# Altium schematic symbol library MCU_ST_STM32WB.SchLib: 40 symbols
Pins are listed as number, name and electrical type; pins without a type are passive.

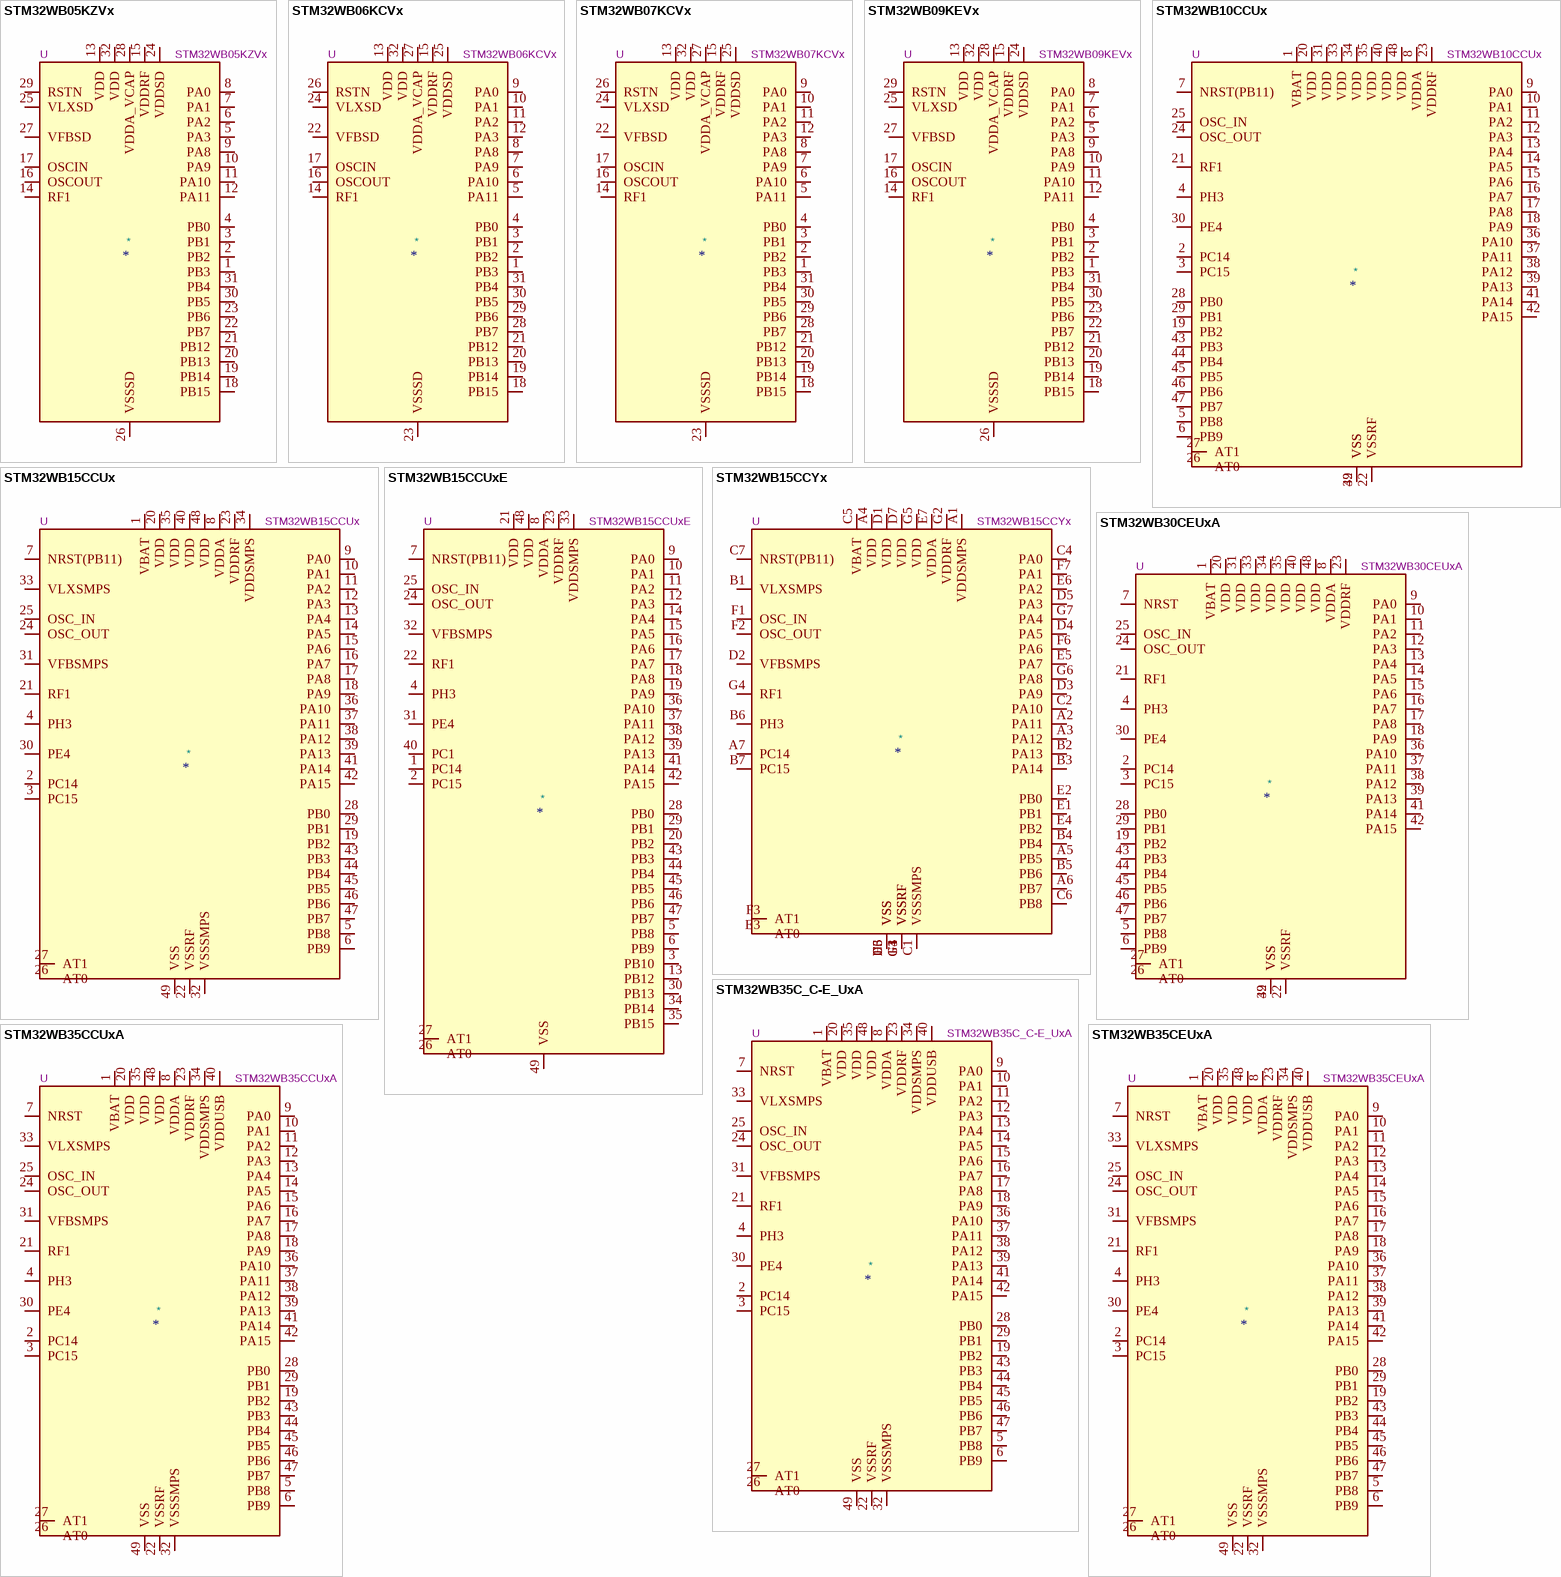
[diagram p0: symbols STM32WB05KZVx to STM32WB35CEUxA]

## STM32WB05KZVx
designator *  value STM32WB05KZVx  Reference: U
STMicroelectronics Arm Cortex-M0+ MCU, 192KB flash, 24KB RAM, 20 GPIO, VFQFPN32; ki_keywords: Arm Cortex-M0+ STM32WB0 STM32WBx5; ki_fp_filters: QFN*1EP*5x5mm*P0.5mm*; Footprint: Package_DFN_QFN:QFN-32-1EP_5x5mm_P0.5mm_EP3.7x3.7mm; Datasheet: https://www.st.com/resource/en/datasheet/stm32wb05kz.pdf; Description_: STMicroelectronics Arm Cortex-M0+ MCU, 192KB flash, 24KB RAM, 20 GPIO, VFQFPN32
pins: 1 PB3, 2 PB2, 3 PB1, 4 PB0, 5 PA3, 6 PA2, 7 PA1, 8 PA0, 9 PA8, 10 PA9, 11 PA10, 12 PA11, 13 VDD, 14 RF1, 15 VDDRF, 16 OSCOUT, 17 OSCIN, 18 PB15, 19 PB14, 20 PB13, 21 PB12, 22 PB7, 23 PB6, 24 VDDSD, 25 VLXSD, 26 VSSSD, 27 VFBSD, 28 VDDA_VCAP, 29 RSTN, 30 PB5, 31 PB4, 32 VDD

## STM32WB06KCVx
designator *  value STM32WB06KCVx  Reference: U
STMicroelectronics Arm Cortex-M0+ MCU, 256KB flash, 32KB RAM, 20 GPIO, VFQFPN32; ki_keywords: Arm Cortex-M0+ STM32WB0 STM32WBx6; ki_fp_filters: QFN*1EP*5x5mm*P0.5mm*; Footprint: Package_DFN_QFN:QFN-32-1EP_5x5mm_P0.5mm_EP3.7x3.7mm; Datasheet: https://www.st.com/resource/en/datasheet/stm32wb06kc.pdf; Description_: STMicroelectronics Arm Cortex-M0+ MCU, 256KB flash, 32KB RAM, 20 GPIO, VFQFPN32
pins: 1 PB3, 2 PB2, 3 PB1, 4 PB0, 5 PA11, 6 PA10, 7 PA9, 8 PA8, 9 PA0, 10 PA1, 11 PA2, 12 PA3, 13 VDD, 14 RF1, 15 VDDRF, 16 OSCOUT, 17 OSCIN, 18 PB15, 19 PB14, 20 PB13, 21 PB12, 22 VFBSD, 23 VSSSD, 24 VLXSD, 25 VDDSD, 26 RSTN, 27 VDDA_VCAP, 28 PB7, 29 PB6, 30 PB5, 31 PB4, 32 VDD

## STM32WB07KCVx
designator *  value STM32WB07KCVx  Reference: U
STMicroelectronics Arm Cortex-M0+ MCU, 256KB flash, 64KB RAM, 20 GPIO, VFQFPN32; ki_keywords: Arm Cortex-M0+ STM32WB0 STM32WBx7; ki_fp_filters: QFN*1EP*5x5mm*P0.5mm*; Footprint: Package_DFN_QFN:QFN-32-1EP_5x5mm_P0.5mm_EP3.7x3.7mm; Datasheet: https://www.st.com/resource/en/datasheet/stm32wb07kc.pdf; Description_: STMicroelectronics Arm Cortex-M0+ MCU, 256KB flash, 64KB RAM, 20 GPIO, VFQFPN32
pins: 1 PB3, 2 PB2, 3 PB1, 4 PB0, 5 PA11, 6 PA10, 7 PA9, 8 PA8, 9 PA0, 10 PA1, 11 PA2, 12 PA3, 13 VDD, 14 RF1, 15 VDDRF, 16 OSCOUT, 17 OSCIN, 18 PB15, 19 PB14, 20 PB13, 21 PB12, 22 VFBSD, 23 VSSSD, 24 VLXSD, 25 VDDSD, 26 RSTN, 27 VDDA_VCAP, 28 PB7, 29 PB6, 30 PB5, 31 PB4, 32 VDD

## STM32WB09KEVx
designator *  value STM32WB09KEVx  Reference: U
STMicroelectronics Arm Cortex-M0+ MCU, 512KB flash, 64KB RAM, 20 GPIO, VFQFPN32; ki_keywords: Arm Cortex-M0+ STM32WB0 STM32WBx9; ki_fp_filters: QFN*1EP*5x5mm*P0.5mm*; Footprint: Package_DFN_QFN:QFN-32-1EP_5x5mm_P0.5mm_EP3.7x3.7mm; Datasheet: https://www.st.com/resource/en/datasheet/stm32wb09ke.pdf; Description_: STMicroelectronics Arm Cortex-M0+ MCU, 512KB flash, 64KB RAM, 20 GPIO, VFQFPN32
pins: 1 PB3, 2 PB2, 3 PB1, 4 PB0, 5 PA3, 6 PA2, 7 PA1, 8 PA0, 9 PA8, 10 PA9, 11 PA10, 12 PA11, 13 VDD, 14 RF1, 15 VDDRF, 16 OSCOUT, 17 OSCIN, 18 PB15, 19 PB14, 20 PB13, 21 PB12, 22 PB7, 23 PB6, 24 VDDSD, 25 VLXSD, 26 VSSSD, 27 VFBSD, 28 VDDA_VCAP, 29 RSTN, 30 PB5, 31 PB4, 32 VDD

## STM32WB10CCUx
designator *  value STM32WB10CCUx  Reference: U
STMicroelectronics Arm Cortex-M4 MCU, 320KB flash, 48KB RAM, 64 MHz, 2.0-3.6V, 30 GPIO, UFQFPN48; ki_keywords: Arm Cortex-M4 STM32WB STM32WBx0 Value Line; ki_fp_filters: QFN*1EP*7x7mm*P0.5mm*; Footprint: Package_DFN_QFN:QFN-48-1EP_7x7mm_P0.5mm_EP5.6x5.6mm; Datasheet: https://www.st.com/resource/en/datasheet/stm32wb10cc.pdf; Description_: STMicroelectronics Arm Cortex-M4 MCU, 320KB flash, 48KB RAM, 64 MHz, 2.0-3.6V, 30 GPIO, UFQFPN48
pins: 1 VBAT, 2 PC14, 3 PC15, 4 PH3, 5 PB8, 6 PB9, 7 NRST(PB11), 8 VDDA, 9 PA0, 10 PA1, 11 PA2, 12 PA3, 13 PA4, 14 PA5, 15 PA6, 16 PA7, 17 PA8, 18 PA9, 19 PB2, 20 VDD, 21 RF1, 22 VSSRF, 23 VDDRF, 24 OSC_OUT, 25 OSC_IN, 26 AT0, 27 AT1, 28 PB0, 29 PB1, 30 PE4, 31 VDD, 32 VSS, 33 VDD, 34 VDD, 35 VDD, 36 PA10, 37 PA11, 38 PA12, 39 PA13, 40 VDD, 41 PA14, 42 PA15, 43 PB3, 44 PB4, 45 PB5, 46 PB6, 47 PB7, 48 VDD, 49 VSS

## STM32WB15CCUx
designator *  value STM32WB15CCUx  Reference: U
STMicroelectronics Arm Cortex-M4 MCU, 320KB flash, 48KB RAM, 64 MHz, 1.71-3.6V, 30 GPIO, UFQFPN48; ki_keywords: Arm Cortex-M4 STM32WB STM32WBx5; ki_fp_filters: QFN*1EP*7x7mm*P0.5mm*; Footprint: Package_DFN_QFN:QFN-48-1EP_7x7mm_P0.5mm_EP5.6x5.6mm; Datasheet: https://www.st.com/resource/en/datasheet/stm32wb15cc.pdf; Description_: STMicroelectronics Arm Cortex-M4 MCU, 320KB flash, 48KB RAM, 64 MHz, 1.71-3.6V, 30 GPIO, UFQFPN48
pins: 1 VBAT, 2 PC14, 3 PC15, 4 PH3, 5 PB8, 6 PB9, 7 NRST(PB11), 8 VDDA, 9 PA0, 10 PA1, 11 PA2, 12 PA3, 13 PA4, 14 PA5, 15 PA6, 16 PA7, 17 PA8, 18 PA9, 19 PB2, 20 VDD, 21 RF1, 22 VSSRF, 23 VDDRF, 24 OSC_OUT, 25 OSC_IN, 26 AT0, 27 AT1, 28 PB0, 29 PB1, 30 PE4, 31 VFBSMPS, 32 VSSSMPS, 33 VLXSMPS, 34 VDDSMPS, 35 VDD, 36 PA10, 37 PA11, 38 PA12, 39 PA13, 40 VDD, 41 PA14, 42 PA15, 43 PB3, 44 PB4, 45 PB5, 46 PB6, 47 PB7, 48 VDD, 49 VSS

## STM32WB15CCUxE
designator *  value STM32WB15CCUxE  Reference: U
STMicroelectronics Arm Cortex-M4 MCU, 320KB flash, 48KB RAM, 64 MHz, 1.71-3.6V, 36 GPIO, UFQFPN48; ki_keywords: Arm Cortex-M4 STM32WB STM32WBx5; ki_fp_filters: QFN*1EP*7x7mm*P0.5mm*; Footprint: Package_DFN_QFN:QFN-48-1EP_7x7mm_P0.5mm_EP5.6x5.6mm; Datasheet: https://www.st.com/resource/en/datasheet/stm32wb15cc.pdf; Description_: STMicroelectronics Arm Cortex-M4 MCU, 320KB flash, 48KB RAM, 64 MHz, 1.71-3.6V, 36 GPIO, UFQFPN48
pins: 1 PC14, 2 PC15, 3 PB10, 4 PH3, 5 PB8, 6 PB9, 7 NRST(PB11), 8 VDDA, 9 PA0, 10 PA1, 11 PA2, 12 PA3, 13 PB12, 14 PA4, 15 PA5, 16 PA6, 17 PA7, 18 PA8, 19 PA9, 20 PB2, 21 VDD, 22 RF1, 23 VDDRF, 24 OSC_OUT, 25 OSC_IN, 26 AT0, 27 AT1, 28 PB0, 29 PB1, 30 PB13, 31 PE4, 32 VFBSMPS, 33 VDDSMPS, 34 PB14, 35 PB15, 36 PA10, 37 PA11, 38 PA12, 39 PA13, 40 PC1, 41 PA14, 42 PA15, 43 PB3, 44 PB4, 45 PB5, 46 PB6, 47 PB7, 48 VDD, 49 VSS

## STM32WB15CCYx
designator *  value STM32WB15CCYx  Reference: U
STMicroelectronics Arm Cortex-M4 MCU, 320KB flash, 48KB RAM, 64 MHz, 1.71-3.6V, 26 GPIO, WLCSP49; ki_keywords: Arm Cortex-M4 STM32WB STM32WBx5; ki_fp_filters: ST*WLCSP*3.3x3.38mm*Layout7x7*P0.4mm*Offcenter*; Footprint: Package_CSP:ST_WLCSP-49_3.3x3.38mm_Layout7x7_P0.4mm_Offcenter; Datasheet: https://www.st.com/resource/en/datasheet/stm32wb15cc.pdf; Description_: STMicroelectronics Arm Cortex-M4 MCU, 320KB flash, 48KB RAM, 64 MHz, 1.71-3.6V, 26 GPIO, WLCSP49
pins: A1 VDDSMPS, A2 PA11, A3 PA12, A4 VDD, A5 PB5, A6 PB7, A7 PC14, B1 VLXSMPS, B2 PA13, B3 PA14, B4 PB4, B5 PB6, B6 PH3, B7 PC15, C1 VSSSMPS, C2 PA10, C3 VSS, C4 PA0, C5 VBAT, C6 PB8, C7 NRST(PB11), D1 VDD, D2 VFBSMPS, D3 PA9, D4 PA5, D5 PA3, D6 VSS, D7 VDD, E1 PB1, E2 PB0, E3 AT0, E4 PB2, E5 PA7, E6 PA2, E7 VDDA, F1 OSC_IN, F2 OSC_OUT, F3 AT1, F4 VSSRF, F5 VSS, F6 PA6, F7 PA1, G1 VSSRF, G2 VDDRF, G3 VSSRF, G4 RF1, G5 VDD, G6 PA8, G7 PA4

## STM32WB30CEUxA
designator *  value STM32WB30CEUxA  Reference: U
STMicroelectronics Arm Cortex-M4 MCU, 512KB flash, 96KB RAM, 30 GPIO, UFQFPN48; ki_keywords: Arm Cortex-M4 STM32WB STM32WBx0 Value Line; ki_fp_filters: QFN*1EP*7x7mm*P0.5mm*; Footprint: Package_DFN_QFN:QFN-48-1EP_7x7mm_P0.5mm_EP5.6x5.6mm; Datasheet: https://www.st.com/resource/en/datasheet/stm32wb30ce.pdf; Description_: STMicroelectronics Arm Cortex-M4 MCU, 512KB flash, 96KB RAM, 30 GPIO, UFQFPN48
pins: 1 VBAT, 2 PC14, 3 PC15, 4 PH3, 5 PB8, 6 PB9, 7 NRST, 8 VDDA, 9 PA0, 10 PA1, 11 PA2, 12 PA3, 13 PA4, 14 PA5, 15 PA6, 16 PA7, 17 PA8, 18 PA9, 19 PB2, 20 VDD, 21 RF1, 22 VSSRF, 23 VDDRF, 24 OSC_OUT, 25 OSC_IN, 26 AT0, 27 AT1, 28 PB0, 29 PB1, 30 PE4, 31 VDD, 32 VSS, 33 VDD, 34 VDD, 35 VDD, 36 PA10, 37 PA11, 38 PA12, 39 PA13, 40 VDD, 41 PA14, 42 PA15, 43 PB3, 44 PB4, 45 PB5, 46 PB6, 47 PB7, 48 VDD, 49 VSS

## STM32WB35C_C-E_UxA
designator *  value STM32WB35C_C-E_UxA  Reference: U
STMicroelectronics Arm Cortex-M4 MCU, 256-512KB flash, 96KB RAM, 30 GPIO, UFQFPN48; ki_keywords: Arm Cortex-M4 STM32WB STM32WBx5; ki_fp_filters: QFN*1EP*7x7mm*P0.5mm*; Footprint: Package_DFN_QFN:QFN-48-1EP_7x7mm_P0.5mm_EP5.6x5.6mm; Datasheet: https://www.st.com/resource/en/datasheet/stm32wb35cc.pdf; Description_: STMicroelectronics Arm Cortex-M4 MCU, 256-512KB flash, 96KB RAM, 30 GPIO, UFQFPN48
pins: 1 VBAT, 2 PC14, 3 PC15, 4 PH3, 5 PB8, 6 PB9, 7 NRST, 8 VDDA, 9 PA0, 10 PA1, 11 PA2, 12 PA3, 13 PA4, 14 PA5, 15 PA6, 16 PA7, 17 PA8, 18 PA9, 19 PB2, 20 VDD, 21 RF1, 22 VSSRF, 23 VDDRF, 24 OSC_OUT, 25 OSC_IN, 26 AT0, 27 AT1, 28 PB0, 29 PB1, 30 PE4, 31 VFBSMPS, 32 VSSSMPS, 33 VLXSMPS, 34 VDDSMPS, 35 VDD, 36 PA10, 37 PA11, 38 PA12, 39 PA13, 40 VDDUSB, 41 PA14, 42 PA15, 43 PB3, 44 PB4, 45 PB5, 46 PB6, 47 PB7, 48 VDD, 49 VSS

## STM32WB35CCUxA
designator *  value STM32WB35CCUxA  Reference: U
STMicroelectronics Arm Cortex-M4 MCU, 256KB flash, 96KB RAM, 30 GPIO, UFQFPN48; ki_keywords: Arm Cortex-M4 STM32WB STM32WBx5; ki_fp_filters: QFN*1EP*7x7mm*P0.5mm*; Footprint: Package_DFN_QFN:QFN-48-1EP_7x7mm_P0.5mm_EP5.6x5.6mm; Datasheet: https://www.st.com/resource/en/datasheet/stm32wb35cc.pdf; Description_: STMicroelectronics Arm Cortex-M4 MCU, 256KB flash, 96KB RAM, 30 GPIO, UFQFPN48
pins: 1 VBAT, 2 PC14, 3 PC15, 4 PH3, 5 PB8, 6 PB9, 7 NRST, 8 VDDA, 9 PA0, 10 PA1, 11 PA2, 12 PA3, 13 PA4, 14 PA5, 15 PA6, 16 PA7, 17 PA8, 18 PA9, 19 PB2, 20 VDD, 21 RF1, 22 VSSRF, 23 VDDRF, 24 OSC_OUT, 25 OSC_IN, 26 AT0, 27 AT1, 28 PB0, 29 PB1, 30 PE4, 31 VFBSMPS, 32 VSSSMPS, 33 VLXSMPS, 34 VDDSMPS, 35 VDD, 36 PA10, 37 PA11, 38 PA12, 39 PA13, 40 VDDUSB, 41 PA14, 42 PA15, 43 PB3, 44 PB4, 45 PB5, 46 PB6, 47 PB7, 48 VDD, 49 VSS

## STM32WB35CEUxA
designator *  value STM32WB35CEUxA  Reference: U
STMicroelectronics Arm Cortex-M4 MCU, 512KB flash, 96KB RAM, 30 GPIO, UFQFPN48; ki_keywords: Arm Cortex-M4 STM32WB STM32WBx5; ki_fp_filters: QFN*1EP*7x7mm*P0.5mm*; Footprint: Package_DFN_QFN:QFN-48-1EP_7x7mm_P0.5mm_EP5.6x5.6mm; Datasheet: https://www.st.com/resource/en/datasheet/stm32wb35ce.pdf; Description_: STMicroelectronics Arm Cortex-M4 MCU, 512KB flash, 96KB RAM, 30 GPIO, UFQFPN48
pins: 1 VBAT, 2 PC14, 3 PC15, 4 PH3, 5 PB8, 6 PB9, 7 NRST, 8 VDDA, 9 PA0, 10 PA1, 11 PA2, 12 PA3, 13 PA4, 14 PA5, 15 PA6, 16 PA7, 17 PA8, 18 PA9, 19 PB2, 20 VDD, 21 RF1, 22 VSSRF, 23 VDDRF, 24 OSC_OUT, 25 OSC_IN, 26 AT0, 27 AT1, 28 PB0, 29 PB1, 30 PE4, 31 VFBSMPS, 32 VSSSMPS, 33 VLXSMPS, 34 VDDSMPS, 35 VDD, 36 PA10, 37 PA11, 38 PA12, 39 PA13, 40 VDDUSB, 41 PA14, 42 PA15, 43 PB3, 44 PB4, 45 PB5, 46 PB6, 47 PB7, 48 VDD, 49 VSS

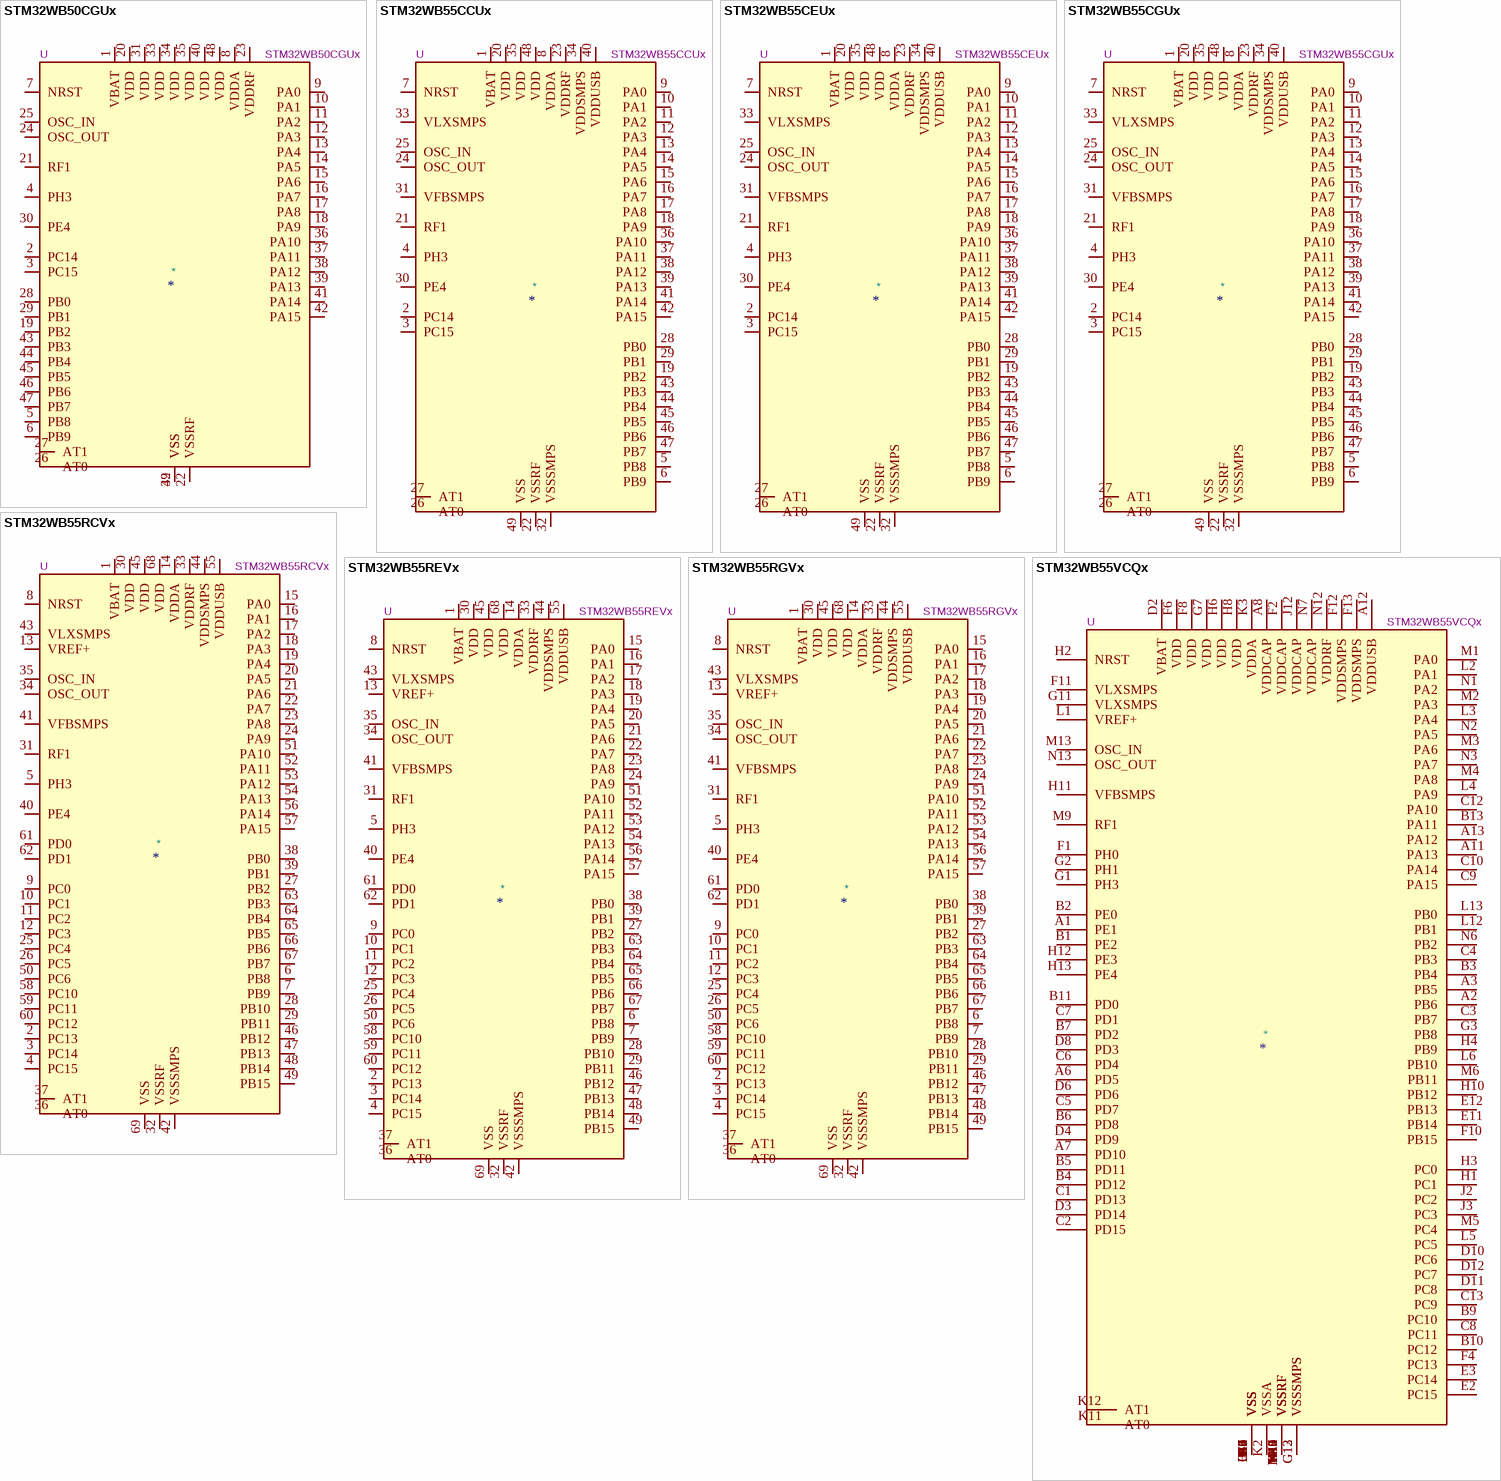
[diagram p1: symbols STM32WB50CGUx to STM32WB55VCQx]

## STM32WB50CGUx
designator *  value STM32WB50CGUx  Reference: U
STMicroelectronics Arm Cortex-M4 MCU, 1024KB flash, 128KB RAM, 64 MHz, 2.0-3.6V, 30 GPIO, UFQFPN48; ki_keywords: Arm Cortex-M4 STM32WB STM32WBx0 Value Line; ki_fp_filters: QFN*1EP*7x7mm*P0.5mm*; Footprint: Package_DFN_QFN:QFN-48-1EP_7x7mm_P0.5mm_EP5.6x5.6mm; Datasheet: https://www.st.com/resource/en/datasheet/stm32wb50cg.pdf; Description_: STMicroelectronics Arm Cortex-M4 MCU, 1024KB flash, 128KB RAM, 64 MHz, 2.0-3.6V, 30 GPIO, UFQFPN48
pins: 1 VBAT, 2 PC14, 3 PC15, 4 PH3, 5 PB8, 6 PB9, 7 NRST, 8 VDDA, 9 PA0, 10 PA1, 11 PA2, 12 PA3, 13 PA4, 14 PA5, 15 PA6, 16 PA7, 17 PA8, 18 PA9, 19 PB2, 20 VDD, 21 RF1, 22 VSSRF, 23 VDDRF, 24 OSC_OUT, 25 OSC_IN, 26 AT0, 27 AT1, 28 PB0, 29 PB1, 30 PE4, 31 VDD, 32 VSS, 33 VDD, 34 VDD, 35 VDD, 36 PA10, 37 PA11, 38 PA12, 39 PA13, 40 VDD, 41 PA14, 42 PA15, 43 PB3, 44 PB4, 45 PB5, 46 PB6, 47 PB7, 48 VDD, 49 VSS

## STM32WB55CCUx
designator *  value STM32WB55CCUx  Reference: U
STMicroelectronics Arm Cortex-M4 MCU, 256KB flash, 128KB RAM, 64 MHz, 1.71-3.6V, 30 GPIO, UFQFPN48; ki_keywords: Arm Cortex-M4 STM32WB STM32WBx5; ki_fp_filters: QFN*1EP*7x7mm*P0.5mm*; Footprint: Package_DFN_QFN:QFN-48-1EP_7x7mm_P0.5mm_EP5.6x5.6mm; Datasheet: https://www.st.com/resource/en/datasheet/stm32wb55cc.pdf; Description_: STMicroelectronics Arm Cortex-M4 MCU, 256KB flash, 128KB RAM, 64 MHz, 1.71-3.6V, 30 GPIO, UFQFPN48
pins: 1 VBAT, 2 PC14, 3 PC15, 4 PH3, 5 PB8, 6 PB9, 7 NRST, 8 VDDA, 9 PA0, 10 PA1, 11 PA2, 12 PA3, 13 PA4, 14 PA5, 15 PA6, 16 PA7, 17 PA8, 18 PA9, 19 PB2, 20 VDD, 21 RF1, 22 VSSRF, 23 VDDRF, 24 OSC_OUT, 25 OSC_IN, 26 AT0, 27 AT1, 28 PB0, 29 PB1, 30 PE4, 31 VFBSMPS, 32 VSSSMPS, 33 VLXSMPS, 34 VDDSMPS, 35 VDD, 36 PA10, 37 PA11, 38 PA12, 39 PA13, 40 VDDUSB, 41 PA14, 42 PA15, 43 PB3, 44 PB4, 45 PB5, 46 PB6, 47 PB7, 48 VDD, 49 VSS

## STM32WB55CEUx
designator *  value STM32WB55CEUx  Reference: U
STMicroelectronics Arm Cortex-M4 MCU, 512KB flash, 256KB RAM, 64 MHz, 1.71-3.6V, 30 GPIO, UFQFPN48; ki_keywords: Arm Cortex-M4 STM32WB STM32WBx5; ki_fp_filters: QFN*1EP*7x7mm*P0.5mm*; Footprint: Package_DFN_QFN:QFN-48-1EP_7x7mm_P0.5mm_EP5.6x5.6mm; Datasheet: https://www.st.com/resource/en/datasheet/stm32wb55ce.pdf; Description_: STMicroelectronics Arm Cortex-M4 MCU, 512KB flash, 256KB RAM, 64 MHz, 1.71-3.6V, 30 GPIO, UFQFPN48
pins: 1 VBAT, 2 PC14, 3 PC15, 4 PH3, 5 PB8, 6 PB9, 7 NRST, 8 VDDA, 9 PA0, 10 PA1, 11 PA2, 12 PA3, 13 PA4, 14 PA5, 15 PA6, 16 PA7, 17 PA8, 18 PA9, 19 PB2, 20 VDD, 21 RF1, 22 VSSRF, 23 VDDRF, 24 OSC_OUT, 25 OSC_IN, 26 AT0, 27 AT1, 28 PB0, 29 PB1, 30 PE4, 31 VFBSMPS, 32 VSSSMPS, 33 VLXSMPS, 34 VDDSMPS, 35 VDD, 36 PA10, 37 PA11, 38 PA12, 39 PA13, 40 VDDUSB, 41 PA14, 42 PA15, 43 PB3, 44 PB4, 45 PB5, 46 PB6, 47 PB7, 48 VDD, 49 VSS

## STM32WB55CGUx
designator *  value STM32WB55CGUx  Reference: U
STMicroelectronics Arm Cortex-M4 MCU, 1024KB flash, 256KB RAM, 64 MHz, 1.71-3.6V, 30 GPIO, UFQFPN48; ki_keywords: Arm Cortex-M4 STM32WB STM32WBx5; ki_fp_filters: QFN*1EP*7x7mm*P0.5mm*; Footprint: Package_DFN_QFN:QFN-48-1EP_7x7mm_P0.5mm_EP5.6x5.6mm; Datasheet: https://www.st.com/resource/en/datasheet/stm32wb55cg.pdf; Description_: STMicroelectronics Arm Cortex-M4 MCU, 1024KB flash, 256KB RAM, 64 MHz, 1.71-3.6V, 30 GPIO, UFQFPN48
pins: 1 VBAT, 2 PC14, 3 PC15, 4 PH3, 5 PB8, 6 PB9, 7 NRST, 8 VDDA, 9 PA0, 10 PA1, 11 PA2, 12 PA3, 13 PA4, 14 PA5, 15 PA6, 16 PA7, 17 PA8, 18 PA9, 19 PB2, 20 VDD, 21 RF1, 22 VSSRF, 23 VDDRF, 24 OSC_OUT, 25 OSC_IN, 26 AT0, 27 AT1, 28 PB0, 29 PB1, 30 PE4, 31 VFBSMPS, 32 VSSSMPS, 33 VLXSMPS, 34 VDDSMPS, 35 VDD, 36 PA10, 37 PA11, 38 PA12, 39 PA13, 40 VDDUSB, 41 PA14, 42 PA15, 43 PB3, 44 PB4, 45 PB5, 46 PB6, 47 PB7, 48 VDD, 49 VSS

## STM32WB55RCVx
designator *  value STM32WB55RCVx  Reference: U
STMicroelectronics Arm Cortex-M4 MCU, 256KB flash, 128KB RAM, 64 MHz, 1.71-3.6V, 49 GPIO, VFQFPN68; ki_keywords: Arm Cortex-M4 STM32WB STM32WBx5; ki_fp_filters: QFN*1EP*8x8mm*P0.4mm*; Footprint: Package_DFN_QFN:QFN-68-1EP_8x8mm_P0.4mm_EP6.4x6.4mm; Datasheet: https://www.st.com/resource/en/datasheet/stm32wb55rc.pdf; Description_: STMicroelectronics Arm Cortex-M4 MCU, 256KB flash, 128KB RAM, 64 MHz, 1.71-3.6V, 49 GPIO, VFQFPN68
pins: 1 VBAT, 2 PC13, 3 PC14, 4 PC15, 5 PH3, 6 PB8, 7 PB9, 8 NRST, 9 PC0, 10 PC1, 11 PC2, 12 PC3, 13 VREF+, 14 VDDA, 15 PA0, 16 PA1, 17 PA2, 18 PA3, 19 PA4, 20 PA5, 21 PA6, 22 PA7, 23 PA8, 24 PA9, 25 PC4, 26 PC5, 27 PB2, 28 PB10, 29 PB11, 30 VDD, 31 RF1, 32 VSSRF, 33 VDDRF, 34 OSC_OUT, 35 OSC_IN, 36 AT0, 37 AT1, 38 PB0, 39 PB1, 40 PE4, 41 VFBSMPS, 42 VSSSMPS, 43 VLXSMPS, 44 VDDSMPS, 45 VDD, 46 PB12, 47 PB13, 48 PB14, 49 PB15, 50 PC6, 51 PA10, 52 PA11, 53 PA12, 54 PA13, 55 VDDUSB, 56 PA14, 57 PA15, 58 PC10, 59 PC11, 60 PC12, 61 PD0, 62 PD1, 63 PB3, 64 PB4, 65 PB5, 66 PB6, 67 PB7, 68 VDD, 69 VSS

## STM32WB55REVx
designator *  value STM32WB55REVx  Reference: U
STMicroelectronics Arm Cortex-M4 MCU, 512KB flash, 256KB RAM, 64 MHz, 1.71-3.6V, 49 GPIO, VFQFPN68; ki_keywords: Arm Cortex-M4 STM32WB STM32WBx5; ki_fp_filters: QFN*1EP*8x8mm*P0.4mm*; Footprint: Package_DFN_QFN:QFN-68-1EP_8x8mm_P0.4mm_EP6.4x6.4mm; Datasheet: https://www.st.com/resource/en/datasheet/stm32wb55re.pdf; Description_: STMicroelectronics Arm Cortex-M4 MCU, 512KB flash, 256KB RAM, 64 MHz, 1.71-3.6V, 49 GPIO, VFQFPN68
pins: 1 VBAT, 2 PC13, 3 PC14, 4 PC15, 5 PH3, 6 PB8, 7 PB9, 8 NRST, 9 PC0, 10 PC1, 11 PC2, 12 PC3, 13 VREF+, 14 VDDA, 15 PA0, 16 PA1, 17 PA2, 18 PA3, 19 PA4, 20 PA5, 21 PA6, 22 PA7, 23 PA8, 24 PA9, 25 PC4, 26 PC5, 27 PB2, 28 PB10, 29 PB11, 30 VDD, 31 RF1, 32 VSSRF, 33 VDDRF, 34 OSC_OUT, 35 OSC_IN, 36 AT0, 37 AT1, 38 PB0, 39 PB1, 40 PE4, 41 VFBSMPS, 42 VSSSMPS, 43 VLXSMPS, 44 VDDSMPS, 45 VDD, 46 PB12, 47 PB13, 48 PB14, 49 PB15, 50 PC6, 51 PA10, 52 PA11, 53 PA12, 54 PA13, 55 VDDUSB, 56 PA14, 57 PA15, 58 PC10, 59 PC11, 60 PC12, 61 PD0, 62 PD1, 63 PB3, 64 PB4, 65 PB5, 66 PB6, 67 PB7, 68 VDD, 69 VSS

## STM32WB55RGVx
designator *  value STM32WB55RGVx  Reference: U
STMicroelectronics Arm Cortex-M4 MCU, 1024KB flash, 256KB RAM, 64 MHz, 1.71-3.6V, 49 GPIO, VFQFPN68; ki_keywords: Arm Cortex-M4 STM32WB STM32WBx5; ki_fp_filters: QFN*1EP*8x8mm*P0.4mm*; Footprint: Package_DFN_QFN:QFN-68-1EP_8x8mm_P0.4mm_EP6.4x6.4mm; Datasheet: https://www.st.com/resource/en/datasheet/stm32wb55rg.pdf; Description_: STMicroelectronics Arm Cortex-M4 MCU, 1024KB flash, 256KB RAM, 64 MHz, 1.71-3.6V, 49 GPIO, VFQFPN68
pins: 1 VBAT, 2 PC13, 3 PC14, 4 PC15, 5 PH3, 6 PB8, 7 PB9, 8 NRST, 9 PC0, 10 PC1, 11 PC2, 12 PC3, 13 VREF+, 14 VDDA, 15 PA0, 16 PA1, 17 PA2, 18 PA3, 19 PA4, 20 PA5, 21 PA6, 22 PA7, 23 PA8, 24 PA9, 25 PC4, 26 PC5, 27 PB2, 28 PB10, 29 PB11, 30 VDD, 31 RF1, 32 VSSRF, 33 VDDRF, 34 OSC_OUT, 35 OSC_IN, 36 AT0, 37 AT1, 38 PB0, 39 PB1, 40 PE4, 41 VFBSMPS, 42 VSSSMPS, 43 VLXSMPS, 44 VDDSMPS, 45 VDD, 46 PB12, 47 PB13, 48 PB14, 49 PB15, 50 PC6, 51 PA10, 52 PA11, 53 PA12, 54 PA13, 55 VDDUSB, 56 PA14, 57 PA15, 58 PC10, 59 PC11, 60 PC12, 61 PD0, 62 PD1, 63 PB3, 64 PB4, 65 PB5, 66 PB6, 67 PB7, 68 VDD, 69 VSS

## STM32WB55VCQx
designator *  value STM32WB55VCQx  Reference: U
STMicroelectronics Arm Cortex-M4 MCU, 256KB flash, 128KB RAM, 64 MHz, 1.71-3.6V, 72 GPIO, UFBGA129; ki_keywords: Arm Cortex-M4 STM32WB STM32WBx5; ki_fp_filters: ST*UFBGA*7x7mm*Layout13x13*P0.5mm*; Footprint: Package_BGA:ST_UFBGA-129_7x7mm_Layout13x13_P0.5mm; Datasheet: https://www.st.com/resource/en/datasheet/stm32wb55vc.pdf; Description_: STMicroelectronics Arm Cortex-M4 MCU, 256KB flash, 128KB RAM, 64 MHz, 1.71-3.6V, 72 GPIO, UFBGA129
pins: A1 PE1, A2 PB6, A3 PB5, A6 PD5, A7 PD10, A8 VDDCAP, A11 PA13, A12 VDDUSB, A13 PA12, B1 PE2, B2 PE0, B3 PB4, B4 PD12, B5 PD11, B6 PD8, B7 PD2, B8 VSS, B9 PC10, B10 PC12, B11 PD0, B12 VSS, B13 PA11, C1 PD13, C2 PD15, C3 PB7, C4 PB3, C5 PD7, C6 PD4, C7 PD1, C8 PC11, C9 PA15, C10 PA14, C11 VSS, C12 PA10, C13 PC9, D2 VBAT, D3 PD14, D4 PD9, D6 PD6, D8 PD3, D10 PC6, D11 PC8, D12 PC7, E2 PC15, E3 PC14, E5 VSS, E7 VSS, E9 VSS, E11 PB14, E12 PB13, F1 PH0, F2 VDDCAP, F3 VSS, F4 PC13, F6 VDD, F8 VDD, F10 PB15, F11 VLXSMPS, F12 VDDSMPS, F13 VDDSMPS, G1 PH3, G2 PH1, G3 PB8, G5 VSS, G7 VDD, G9 VSS, G11 VLXSMPS, G12 VSSSMPS, G13 VSSSMPS, H1 PC1, H2 NRST, H3 PC0, H4 PB9, H6 VDD, H8 VDD, H10 PB12, H11 VFBSMPS, H12 PE3, H13 PE4, J2 PC2, J3 PC3, J5 VSS, J7 VSS, J9 VSS, J11 VSS, J12 VDDCAP, K2 VSSA, K3 VDDA, K4 VSS, K6 VSS, K8 VSSRF, K10 VSSRF, K11 AT0, K12 AT1, L1 VREF+, L2 PA1, L3 PA4, L4 PA9, L5 PC5, L6 PB10, L7 VSSRF, L8 VSSRF, L9 VSSRF, L10 VSSRF, L11 VSSRF, L12 PB1, L13 PB0, M1 PA0, M2 PA3, M3 PA6, M4 PA8, M5 PC4, M6 PB11, M7 VSS, M8 VSSRF, M9 RF1, M10 VSSRF, M11 VSSRF, M12 VSSRF, M13 OSC_IN, N1 PA2, N2 PA5, N3 PA7, N6 PB2, N7 VDDCAP, N8 VSSRF, N11 VSSRF, N12 VDDRF, N13 OSC_OUT

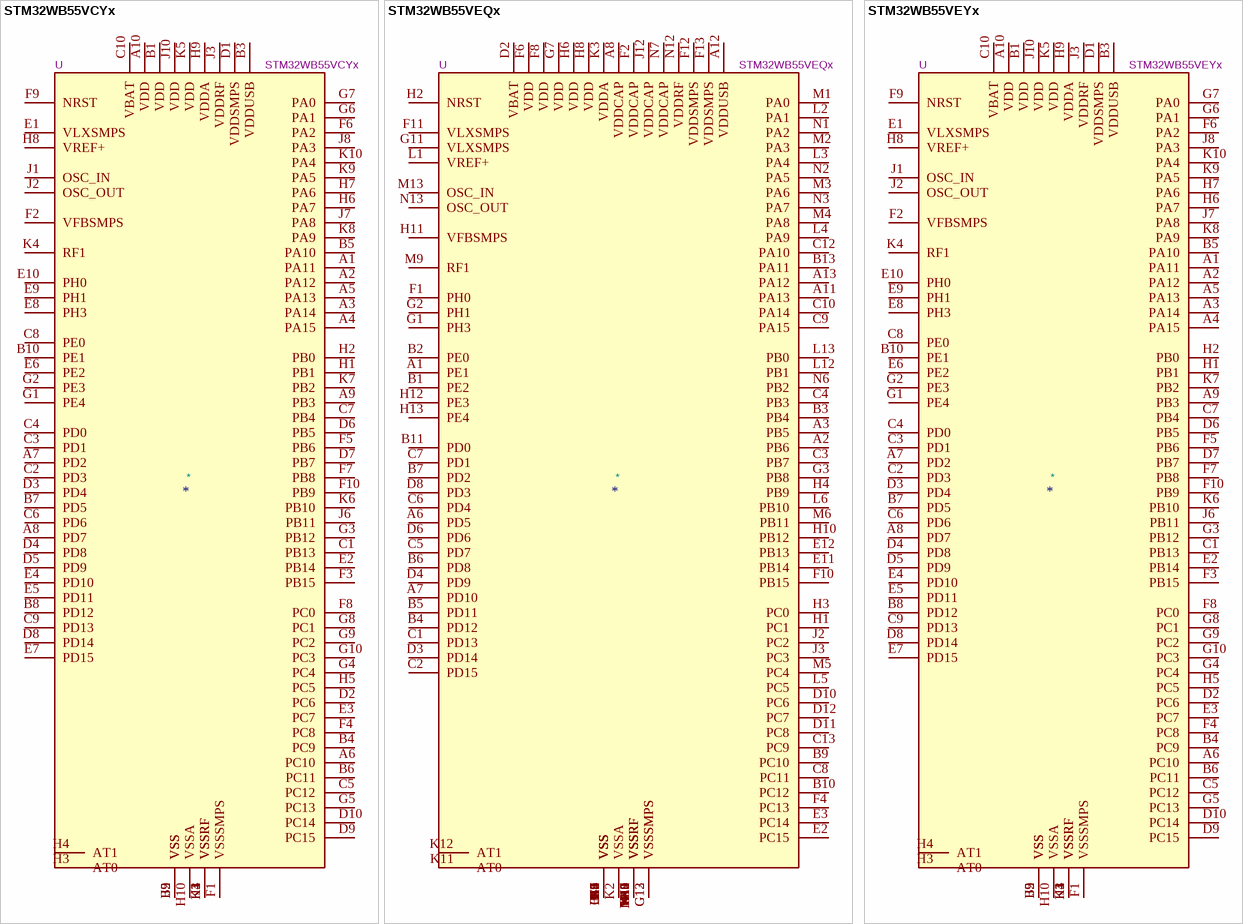
[diagram p2: symbols STM32WB55VCYx to STM32WB55VEYx]

## STM32WB55VCYx
designator *  value STM32WB55VCYx  Reference: U
STMicroelectronics Arm Cortex-M4 MCU, 256KB flash, 128KB RAM, 64 MHz, 1.71-3.6V, 72 GPIO, WLCSP100; ki_keywords: Arm Cortex-M4 STM32WB STM32WBx5; ki_fp_filters: ST*WLCSP*4.4x4.38mm*Layout10x10*P0.4mm*Offcenter*; Footprint: Package_CSP:ST_WLCSP-100_4.4x4.38mm_Layout10x10_P0.4mm_Offcenter; Datasheet: https://www.st.com/resource/en/datasheet/stm32wb55vc.pdf; Description_: STMicroelectronics Arm Cortex-M4 MCU, 256KB flash, 128KB RAM, 64 MHz, 1.71-3.6V, 72 GPIO, WLCSP100
pins: A1 PA11, A2 PA12, A3 PA14, A4 PA15, A5 PA13, A6 PC10, A7 PD2, A8 PD7, A9 PB3, A10 VDD, B1 VDD, B2 VSS, B3 VDDUSB, B4 PC9, B5 PA10, B6 PC11, B7 PD5, B8 PD12, B9 VSS, B10 PE1, C1 PB13, C2 PD3, C3 PD1, C4 PD0, C5 PC12, C6 PD6, C7 PB4, C8 PE0, C9 PD13, C10 VBAT, D1 VDDSMPS, D2 PC6, D3 PD4, D4 PD8, D5 PD9, D6 PB5, D7 PB7, D8 PD14, D9 PC15, D10 PC14, E1 VLXSMPS, E2 PB14, E3 PC7, E4 PD10, E5 PD11, E6 PE2, E7 PD15, E8 PH3, E9 PH1, E10 PH0, F1 VSSSMPS, F2 VFBSMPS, F3 PB15, F4 PC8, F5 PB6, F6 PA2, F7 PB8, F8 PC0, F9 NRST, F10 PB9, G1 PE4, G2 PE3, G3 PB12, G4 PC4, G5 PC13, G6 PA1, G7 PA0, G8 PC1, G9 PC2, G10 PC3, H1 PB1, H2 PB0, H3 AT0, H4 AT1, H5 PC5, H6 PA7, H7 PA6, H8 VREF+, H9 VDDA, H10 VSSA, J1 OSC_IN, J2 OSC_OUT, J3 VDDRF, J4 VSSRF, J5 VSS, J6 PB11, J7 PA8, J8 PA3, J9 VSS, J10 VDD, K1 VSSRF, K2 VSSRF, K3 VSSRF, K4 RF1, K5 VDD, K6 PB10, K7 PB2, K8 PA9, K9 PA5, K10 PA4

## STM32WB55VEQx
designator *  value STM32WB55VEQx  Reference: U
STMicroelectronics Arm Cortex-M4 MCU, 512KB flash, 256KB RAM, 64 MHz, 1.71-3.6V, 72 GPIO, UFBGA129; ki_keywords: Arm Cortex-M4 STM32WB STM32WBx5; ki_fp_filters: ST*UFBGA*7x7mm*Layout13x13*P0.5mm*; Footprint: Package_BGA:ST_UFBGA-129_7x7mm_Layout13x13_P0.5mm; Datasheet: https://www.st.com/resource/en/datasheet/stm32wb55ve.pdf; Description_: STMicroelectronics Arm Cortex-M4 MCU, 512KB flash, 256KB RAM, 64 MHz, 1.71-3.6V, 72 GPIO, UFBGA129
pins: A1 PE1, A2 PB6, A3 PB5, A6 PD5, A7 PD10, A8 VDDCAP, A11 PA13, A12 VDDUSB, A13 PA12, B1 PE2, B2 PE0, B3 PB4, B4 PD12, B5 PD11, B6 PD8, B7 PD2, B8 VSS, B9 PC10, B10 PC12, B11 PD0, B12 VSS, B13 PA11, C1 PD13, C2 PD15, C3 PB7, C4 PB3, C5 PD7, C6 PD4, C7 PD1, C8 PC11, C9 PA15, C10 PA14, C11 VSS, C12 PA10, C13 PC9, D2 VBAT, D3 PD14, D4 PD9, D6 PD6, D8 PD3, D10 PC6, D11 PC8, D12 PC7, E2 PC15, E3 PC14, E5 VSS, E7 VSS, E9 VSS, E11 PB14, E12 PB13, F1 PH0, F2 VDDCAP, F3 VSS, F4 PC13, F6 VDD, F8 VDD, F10 PB15, F11 VLXSMPS, F12 VDDSMPS, F13 VDDSMPS, G1 PH3, G2 PH1, G3 PB8, G5 VSS, G7 VDD, G9 VSS, G11 VLXSMPS, G12 VSSSMPS, G13 VSSSMPS, H1 PC1, H2 NRST, H3 PC0, H4 PB9, H6 VDD, H8 VDD, H10 PB12, H11 VFBSMPS, H12 PE3, H13 PE4, J2 PC2, J3 PC3, J5 VSS, J7 VSS, J9 VSS, J11 VSS, J12 VDDCAP, K2 VSSA, K3 VDDA, K4 VSS, K6 VSS, K8 VSSRF, K10 VSSRF, K11 AT0, K12 AT1, L1 VREF+, L2 PA1, L3 PA4, L4 PA9, L5 PC5, L6 PB10, L7 VSSRF, L8 VSSRF, L9 VSSRF, L10 VSSRF, L11 VSSRF, L12 PB1, L13 PB0, M1 PA0, M2 PA3, M3 PA6, M4 PA8, M5 PC4, M6 PB11, M7 VSS, M8 VSSRF, M9 RF1, M10 VSSRF, M11 VSSRF, M12 VSSRF, M13 OSC_IN, N1 PA2, N2 PA5, N3 PA7, N6 PB2, N7 VDDCAP, N8 VSSRF, N11 VSSRF, N12 VDDRF, N13 OSC_OUT

## STM32WB55VEYx
designator *  value STM32WB55VEYx  Reference: U
STMicroelectronics Arm Cortex-M4 MCU, 512KB flash, 256KB RAM, 64 MHz, 1.71-3.6V, 72 GPIO, WLCSP100; ki_keywords: Arm Cortex-M4 STM32WB STM32WBx5; ki_fp_filters: ST*WLCSP*4.4x4.38mm*Layout10x10*P0.4mm*Offcenter*; Footprint: Package_CSP:ST_WLCSP-100_4.4x4.38mm_Layout10x10_P0.4mm_Offcenter; Datasheet: https://www.st.com/resource/en/datasheet/stm32wb55ve.pdf; Description_: STMicroelectronics Arm Cortex-M4 MCU, 512KB flash, 256KB RAM, 64 MHz, 1.71-3.6V, 72 GPIO, WLCSP100
pins: A1 PA11, A2 PA12, A3 PA14, A4 PA15, A5 PA13, A6 PC10, A7 PD2, A8 PD7, A9 PB3, A10 VDD, B1 VDD, B2 VSS, B3 VDDUSB, B4 PC9, B5 PA10, B6 PC11, B7 PD5, B8 PD12, B9 VSS, B10 PE1, C1 PB13, C2 PD3, C3 PD1, C4 PD0, C5 PC12, C6 PD6, C7 PB4, C8 PE0, C9 PD13, C10 VBAT, D1 VDDSMPS, D2 PC6, D3 PD4, D4 PD8, D5 PD9, D6 PB5, D7 PB7, D8 PD14, D9 PC15, D10 PC14, E1 VLXSMPS, E2 PB14, E3 PC7, E4 PD10, E5 PD11, E6 PE2, E7 PD15, E8 PH3, E9 PH1, E10 PH0, F1 VSSSMPS, F2 VFBSMPS, F3 PB15, F4 PC8, F5 PB6, F6 PA2, F7 PB8, F8 PC0, F9 NRST, F10 PB9, G1 PE4, G2 PE3, G3 PB12, G4 PC4, G5 PC13, G6 PA1, G7 PA0, G8 PC1, G9 PC2, G10 PC3, H1 PB1, H2 PB0, H3 AT0, H4 AT1, H5 PC5, H6 PA7, H7 PA6, H8 VREF+, H9 VDDA, H10 VSSA, J1 OSC_IN, J2 OSC_OUT, J3 VDDRF, J4 VSSRF, J5 VSS, J6 PB11, J7 PA8, J8 PA3, J9 VSS, J10 VDD, K1 VSSRF, K2 VSSRF, K3 VSSRF, K4 RF1, K5 VDD, K6 PB10, K7 PB2, K8 PA9, K9 PA5, K10 PA4

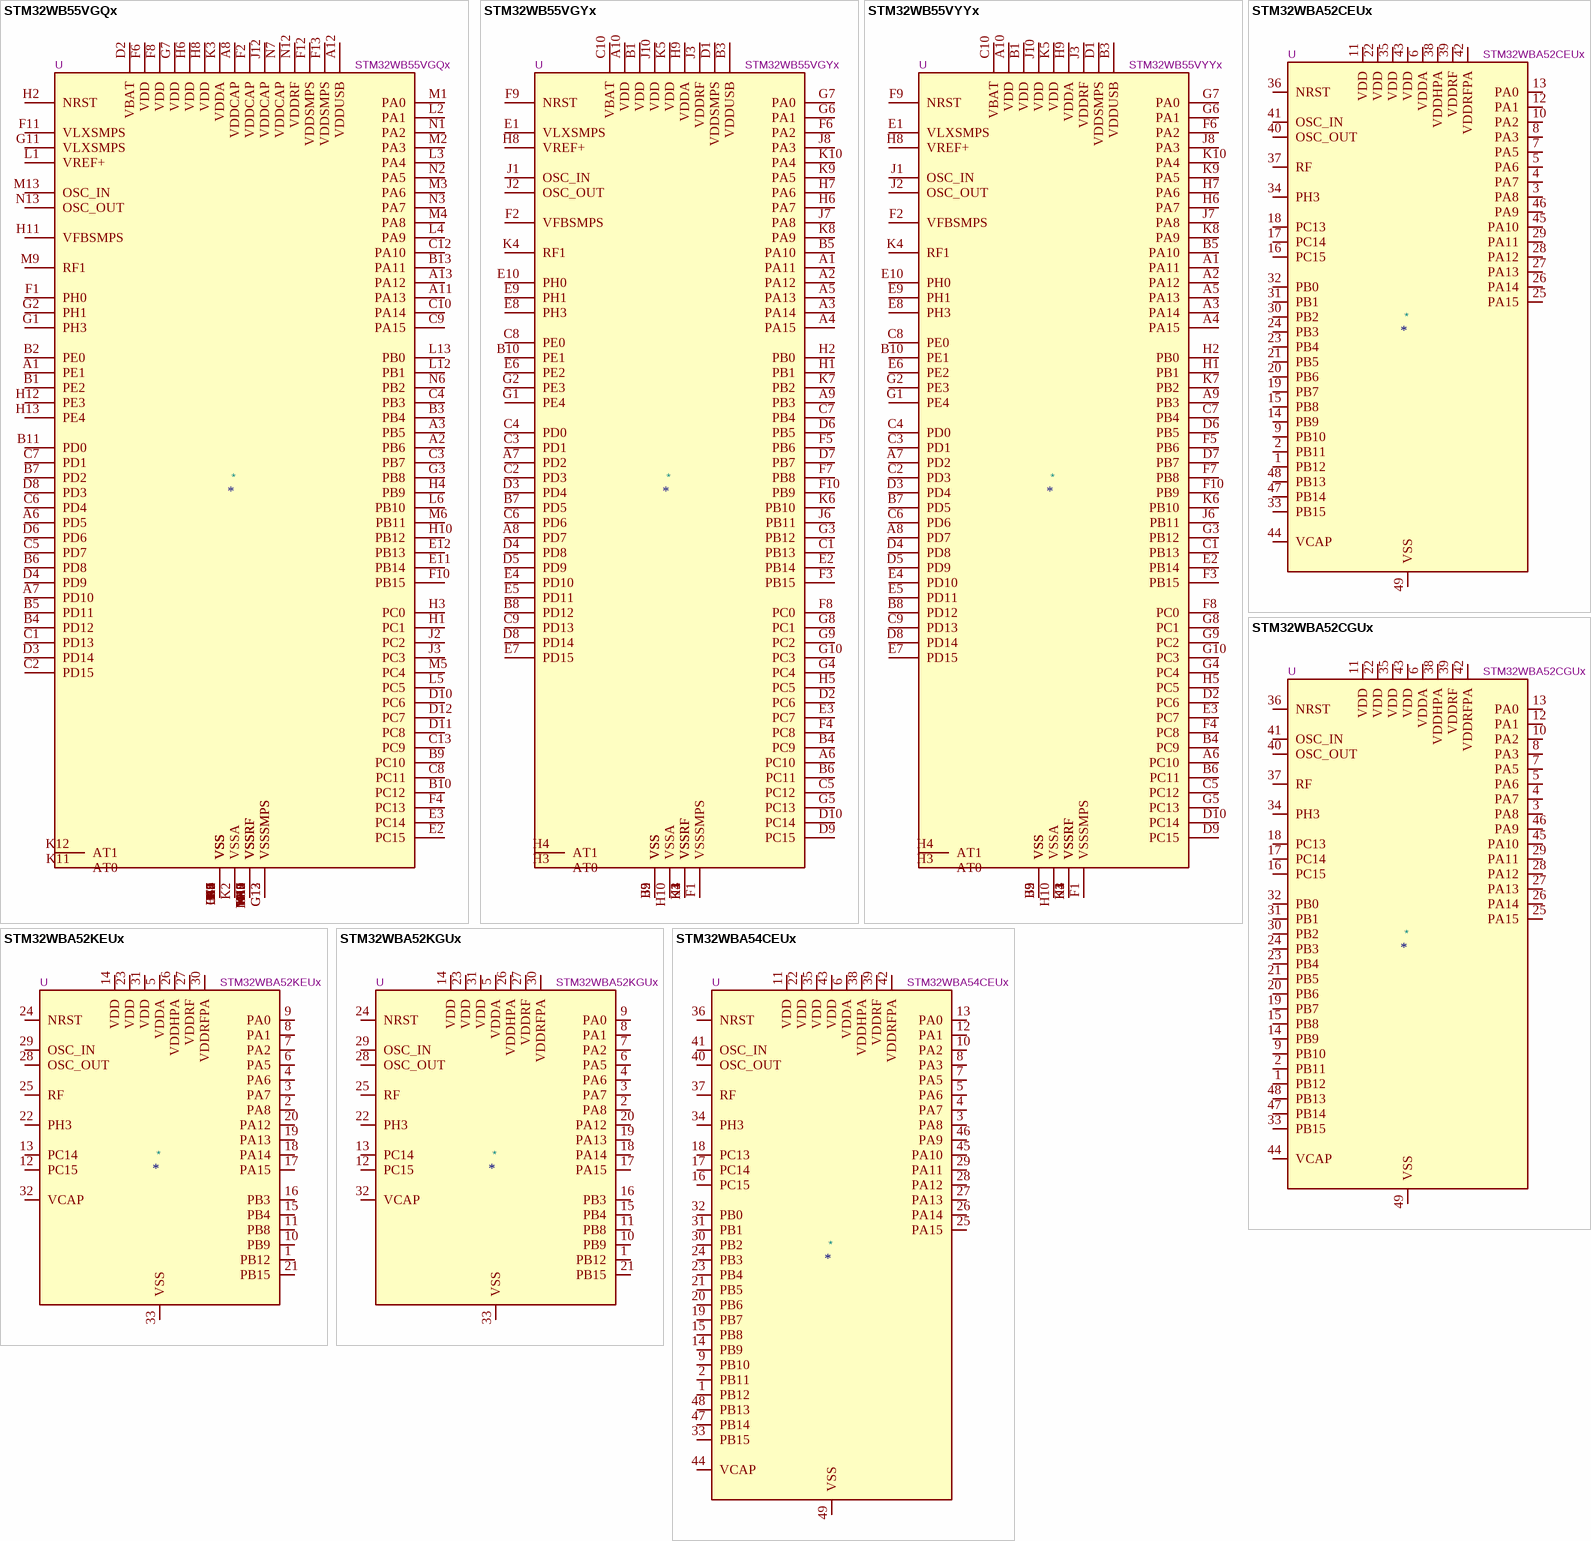
[diagram p3: symbols STM32WB55VGQx to STM32WBA54CEUx]

## STM32WB55VGQx
designator *  value STM32WB55VGQx  Reference: U
STMicroelectronics Arm Cortex-M4 MCU, 1024KB flash, 256KB RAM, 64 MHz, 1.71-3.6V, 72 GPIO, UFBGA129; ki_keywords: Arm Cortex-M4 STM32WB STM32WBx5; ki_fp_filters: ST*UFBGA*7x7mm*Layout13x13*P0.5mm*; Footprint: Package_BGA:ST_UFBGA-129_7x7mm_Layout13x13_P0.5mm; Datasheet: https://www.st.com/resource/en/datasheet/stm32wb55vg.pdf; Description_: STMicroelectronics Arm Cortex-M4 MCU, 1024KB flash, 256KB RAM, 64 MHz, 1.71-3.6V, 72 GPIO, UFBGA129
pins: A1 PE1, A2 PB6, A3 PB5, A6 PD5, A7 PD10, A8 VDDCAP, A11 PA13, A12 VDDUSB, A13 PA12, B1 PE2, B2 PE0, B3 PB4, B4 PD12, B5 PD11, B6 PD8, B7 PD2, B8 VSS, B9 PC10, B10 PC12, B11 PD0, B12 VSS, B13 PA11, C1 PD13, C2 PD15, C3 PB7, C4 PB3, C5 PD7, C6 PD4, C7 PD1, C8 PC11, C9 PA15, C10 PA14, C11 VSS, C12 PA10, C13 PC9, D2 VBAT, D3 PD14, D4 PD9, D6 PD6, D8 PD3, D10 PC6, D11 PC8, D12 PC7, E2 PC15, E3 PC14, E5 VSS, E7 VSS, E9 VSS, E11 PB14, E12 PB13, F1 PH0, F2 VDDCAP, F3 VSS, F4 PC13, F6 VDD, F8 VDD, F10 PB15, F11 VLXSMPS, F12 VDDSMPS, F13 VDDSMPS, G1 PH3, G2 PH1, G3 PB8, G5 VSS, G7 VDD, G9 VSS, G11 VLXSMPS, G12 VSSSMPS, G13 VSSSMPS, H1 PC1, H2 NRST, H3 PC0, H4 PB9, H6 VDD, H8 VDD, H10 PB12, H11 VFBSMPS, H12 PE3, H13 PE4, J2 PC2, J3 PC3, J5 VSS, J7 VSS, J9 VSS, J11 VSS, J12 VDDCAP, K2 VSSA, K3 VDDA, K4 VSS, K6 VSS, K8 VSSRF, K10 VSSRF, K11 AT0, K12 AT1, L1 VREF+, L2 PA1, L3 PA4, L4 PA9, L5 PC5, L6 PB10, L7 VSSRF, L8 VSSRF, L9 VSSRF, L10 VSSRF, L11 VSSRF, L12 PB1, L13 PB0, M1 PA0, M2 PA3, M3 PA6, M4 PA8, M5 PC4, M6 PB11, M7 VSS, M8 VSSRF, M9 RF1, M10 VSSRF, M11 VSSRF, M12 VSSRF, M13 OSC_IN, N1 PA2, N2 PA5, N3 PA7, N6 PB2, N7 VDDCAP, N8 VSSRF, N11 VSSRF, N12 VDDRF, N13 OSC_OUT

## STM32WB55VGYx
designator *  value STM32WB55VGYx  Reference: U
STMicroelectronics Arm Cortex-M4 MCU, 1024KB flash, 256KB RAM, 64 MHz, 1.71-3.6V, 72 GPIO, WLCSP100; ki_keywords: Arm Cortex-M4 STM32WB STM32WBx5; ki_fp_filters: ST*WLCSP*4.4x4.38mm*Layout10x10*P0.4mm*Offcenter*; Footprint: Package_CSP:ST_WLCSP-100_4.4x4.38mm_Layout10x10_P0.4mm_Offcenter; Datasheet: https://www.st.com/resource/en/datasheet/stm32wb55vg.pdf; Description_: STMicroelectronics Arm Cortex-M4 MCU, 1024KB flash, 256KB RAM, 64 MHz, 1.71-3.6V, 72 GPIO, WLCSP100
pins: A1 PA11, A2 PA12, A3 PA14, A4 PA15, A5 PA13, A6 PC10, A7 PD2, A8 PD7, A9 PB3, A10 VDD, B1 VDD, B2 VSS, B3 VDDUSB, B4 PC9, B5 PA10, B6 PC11, B7 PD5, B8 PD12, B9 VSS, B10 PE1, C1 PB13, C2 PD3, C3 PD1, C4 PD0, C5 PC12, C6 PD6, C7 PB4, C8 PE0, C9 PD13, C10 VBAT, D1 VDDSMPS, D2 PC6, D3 PD4, D4 PD8, D5 PD9, D6 PB5, D7 PB7, D8 PD14, D9 PC15, D10 PC14, E1 VLXSMPS, E2 PB14, E3 PC7, E4 PD10, E5 PD11, E6 PE2, E7 PD15, E8 PH3, E9 PH1, E10 PH0, F1 VSSSMPS, F2 VFBSMPS, F3 PB15, F4 PC8, F5 PB6, F6 PA2, F7 PB8, F8 PC0, F9 NRST, F10 PB9, G1 PE4, G2 PE3, G3 PB12, G4 PC4, G5 PC13, G6 PA1, G7 PA0, G8 PC1, G9 PC2, G10 PC3, H1 PB1, H2 PB0, H3 AT0, H4 AT1, H5 PC5, H6 PA7, H7 PA6, H8 VREF+, H9 VDDA, H10 VSSA, J1 OSC_IN, J2 OSC_OUT, J3 VDDRF, J4 VSSRF, J5 VSS, J6 PB11, J7 PA8, J8 PA3, J9 VSS, J10 VDD, K1 VSSRF, K2 VSSRF, K3 VSSRF, K4 RF1, K5 VDD, K6 PB10, K7 PB2, K8 PA9, K9 PA5, K10 PA4

## STM32WB55VYYx
designator *  value STM32WB55VYYx  Reference: U
STMicroelectronics Arm Cortex-M4 MCU, 640KB flash, 256KB RAM, 64 MHz, 1.71-3.6V, 72 GPIO, WLCSP100; ki_keywords: Arm Cortex-M4 STM32WB STM32WBx5; ki_fp_filters: ST*WLCSP*4.4x4.38mm*Layout10x10*P0.4mm*Offcenter*; Footprint: Package_CSP:ST_WLCSP-100_4.4x4.38mm_Layout10x10_P0.4mm_Offcenter; Datasheet: https://www.st.com/resource/en/datasheet/stm32wb55vy.pdf; Description_: STMicroelectronics Arm Cortex-M4 MCU, 640KB flash, 256KB RAM, 64 MHz, 1.71-3.6V, 72 GPIO, WLCSP100
pins: A1 PA11, A2 PA12, A3 PA14, A4 PA15, A5 PA13, A6 PC10, A7 PD2, A8 PD7, A9 PB3, A10 VDD, B1 VDD, B2 VSS, B3 VDDUSB, B4 PC9, B5 PA10, B6 PC11, B7 PD5, B8 PD12, B9 VSS, B10 PE1, C1 PB13, C2 PD3, C3 PD1, C4 PD0, C5 PC12, C6 PD6, C7 PB4, C8 PE0, C9 PD13, C10 VBAT, D1 VDDSMPS, D2 PC6, D3 PD4, D4 PD8, D5 PD9, D6 PB5, D7 PB7, D8 PD14, D9 PC15, D10 PC14, E1 VLXSMPS, E2 PB14, E3 PC7, E4 PD10, E5 PD11, E6 PE2, E7 PD15, E8 PH3, E9 PH1, E10 PH0, F1 VSSSMPS, F2 VFBSMPS, F3 PB15, F4 PC8, F5 PB6, F6 PA2, F7 PB8, F8 PC0, F9 NRST, F10 PB9, G1 PE4, G2 PE3, G3 PB12, G4 PC4, G5 PC13, G6 PA1, G7 PA0, G8 PC1, G9 PC2, G10 PC3, H1 PB1, H2 PB0, H3 AT0, H4 AT1, H5 PC5, H6 PA7, H7 PA6, H8 VREF+, H9 VDDA, H10 VSSA, J1 OSC_IN, J2 OSC_OUT, J3 VDDRF, J4 VSSRF, J5 VSS, J6 PB11, J7 PA8, J8 PA3, J9 VSS, J10 VDD, K1 VSSRF, K2 VSSRF, K3 VSSRF, K4 RF1, K5 VDD, K6 PB10, K7 PB2, K8 PA9, K9 PA5, K10 PA4

## STM32WBA52CEUx
designator *  value STM32WBA52CEUx  Reference: U
STMicroelectronics Arm Cortex-M33 MCU, 512KB flash, 96KB RAM, 100 MHz, 1.71-3.6V, 37 GPIO, UFQFPN48; ki_keywords: Arm Cortex-M33 STM32WBA STM32WBAx2; ki_fp_filters: QFN*1EP*7x7mm*P0.5mm*; Footprint: Package_DFN_QFN:QFN-48-1EP_7x7mm_P0.5mm_EP5.6x5.6mm; Datasheet: https://www.st.com/resource/en/datasheet/stm32wba52ce.pdf; Description_: STMicroelectronics Arm Cortex-M33 MCU, 512KB flash, 96KB RAM, 100 MHz, 1.71-3.6V, 37 GPIO, UFQFPN48
pins: 1 PB12, 2 PB11, 3 PA8, 4 PA7, 5 PA6, 6 VDDA, 7 PA5, 8 PA3, 9 PB10, 10 PA2, 11 VDD, 12 PA1, 13 PA0, 14 PB9, 15 PB8, 16 PC15, 17 PC14, 18 PC13, 19 PB7, 20 PB6, 21 PB5, 22 VDD, 23 PB4, 24 PB3, 25 PA15, 26 PA14, 27 PA13, 28 PA12, 29 PA11, 30 PB2, 31 PB1, 32 PB0, 33 PB15, 34 PH3, 35 VDD, 36 NRST, 37 RF, 38 VDDHPA, 39 VDDRF, 40 OSC_OUT, 41 OSC_IN, 42 VDDRFPA, 43 VDD, 44 VCAP, 45 PA10, 46 PA9, 47 PB14, 48 PB13, 49 VSS

## STM32WBA52CGUx
designator *  value STM32WBA52CGUx  Reference: U
STMicroelectronics Arm Cortex-M33 MCU, 1024KB flash, 128KB RAM, 100 MHz, 1.71-3.6V, 37 GPIO, UFQFPN48; ki_keywords: Arm Cortex-M33 STM32WBA STM32WBAx2; ki_fp_filters: QFN*1EP*7x7mm*P0.5mm*; Footprint: Package_DFN_QFN:QFN-48-1EP_7x7mm_P0.5mm_EP5.6x5.6mm; Datasheet: https://www.st.com/resource/en/datasheet/stm32wba52cg.pdf; Description_: STMicroelectronics Arm Cortex-M33 MCU, 1024KB flash, 128KB RAM, 100 MHz, 1.71-3.6V, 37 GPIO, UFQFPN48
pins: 1 PB12, 2 PB11, 3 PA8, 4 PA7, 5 PA6, 6 VDDA, 7 PA5, 8 PA3, 9 PB10, 10 PA2, 11 VDD, 12 PA1, 13 PA0, 14 PB9, 15 PB8, 16 PC15, 17 PC14, 18 PC13, 19 PB7, 20 PB6, 21 PB5, 22 VDD, 23 PB4, 24 PB3, 25 PA15, 26 PA14, 27 PA13, 28 PA12, 29 PA11, 30 PB2, 31 PB1, 32 PB0, 33 PB15, 34 PH3, 35 VDD, 36 NRST, 37 RF, 38 VDDHPA, 39 VDDRF, 40 OSC_OUT, 41 OSC_IN, 42 VDDRFPA, 43 VDD, 44 VCAP, 45 PA10, 46 PA9, 47 PB14, 48 PB13, 49 VSS

## STM32WBA52KEUx
designator *  value STM32WBA52KEUx  Reference: U
STMicroelectronics Arm Cortex-M33 MCU, 512KB flash, 96KB RAM, 100 MHz, 1.71-3.6V, 22 GPIO, UFQFPN32; ki_keywords: Arm Cortex-M33 STM32WBA STM32WBAx2; ki_fp_filters: QFN*1EP*5x5mm*P0.5mm*; Footprint: Package_DFN_QFN:QFN-32-1EP_5x5mm_P0.5mm_EP3.45x3.45mm; Datasheet: https://www.st.com/resource/en/datasheet/stm32wba52ke.pdf; Description_: STMicroelectronics Arm Cortex-M33 MCU, 512KB flash, 96KB RAM, 100 MHz, 1.71-3.6V, 22 GPIO, UFQFPN32
pins: 1 PB12, 2 PA8, 3 PA7, 4 PA6, 5 VDDA, 6 PA5, 7 PA2, 8 PA1, 9 PA0, 10 PB9, 11 PB8, 12 PC15, 13 PC14, 14 VDD, 15 PB4, 16 PB3, 17 PA15, 18 PA14, 19 PA13, 20 PA12, 21 PB15, 22 PH3, 23 VDD, 24 NRST, 25 RF, 26 VDDHPA, 27 VDDRF, 28 OSC_OUT, 29 OSC_IN, 30 VDDRFPA, 31 VDD, 32 VCAP, 33 VSS

## STM32WBA52KGUx
designator *  value STM32WBA52KGUx  Reference: U
STMicroelectronics Arm Cortex-M33 MCU, 1024KB flash, 128KB RAM, 100 MHz, 1.71-3.6V, 22 GPIO, UFQFPN32; ki_keywords: Arm Cortex-M33 STM32WBA STM32WBAx2; ki_fp_filters: QFN*1EP*5x5mm*P0.5mm*; Footprint: Package_DFN_QFN:QFN-32-1EP_5x5mm_P0.5mm_EP3.45x3.45mm; Datasheet: https://www.st.com/resource/en/datasheet/stm32wba52kg.pdf; Description_: STMicroelectronics Arm Cortex-M33 MCU, 1024KB flash, 128KB RAM, 100 MHz, 1.71-3.6V, 22 GPIO, UFQFPN32
pins: 1 PB12, 2 PA8, 3 PA7, 4 PA6, 5 VDDA, 6 PA5, 7 PA2, 8 PA1, 9 PA0, 10 PB9, 11 PB8, 12 PC15, 13 PC14, 14 VDD, 15 PB4, 16 PB3, 17 PA15, 18 PA14, 19 PA13, 20 PA12, 21 PB15, 22 PH3, 23 VDD, 24 NRST, 25 RF, 26 VDDHPA, 27 VDDRF, 28 OSC_OUT, 29 OSC_IN, 30 VDDRFPA, 31 VDD, 32 VCAP, 33 VSS

## STM32WBA54CEUx
designator *  value STM32WBA54CEUx  Reference: U
STMicroelectronics Arm Cortex-M33 MCU, 512KB flash, 96KB RAM, 100 MHz, 1.71-3.6V, 37 GPIO, UFQFPN48; ki_keywords: Arm Cortex-M33 STM32WBA STM32WBAx4; ki_fp_filters: QFN*1EP*7x7mm*P0.5mm*; Footprint: Package_DFN_QFN:QFN-48-1EP_7x7mm_P0.5mm_EP5.6x5.6mm; Datasheet: https://www.st.com/resource/en/datasheet/stm32wba54ce.pdf; Description_: STMicroelectronics Arm Cortex-M33 MCU, 512KB flash, 96KB RAM, 100 MHz, 1.71-3.6V, 37 GPIO, UFQFPN48
pins: 1 PB12, 2 PB11, 3 PA8, 4 PA7, 5 PA6, 6 VDDA, 7 PA5, 8 PA3, 9 PB10, 10 PA2, 11 VDD, 12 PA1, 13 PA0, 14 PB9, 15 PB8, 16 PC15, 17 PC14, 18 PC13, 19 PB7, 20 PB6, 21 PB5, 22 VDD, 23 PB4, 24 PB3, 25 PA15, 26 PA14, 27 PA13, 28 PA12, 29 PA11, 30 PB2, 31 PB1, 32 PB0, 33 PB15, 34 PH3, 35 VDD, 36 NRST, 37 RF, 38 VDDHPA, 39 VDDRF, 40 OSC_OUT, 41 OSC_IN, 42 VDDRFPA, 43 VDD, 44 VCAP, 45 PA10, 46 PA9, 47 PB14, 48 PB13, 49 VSS

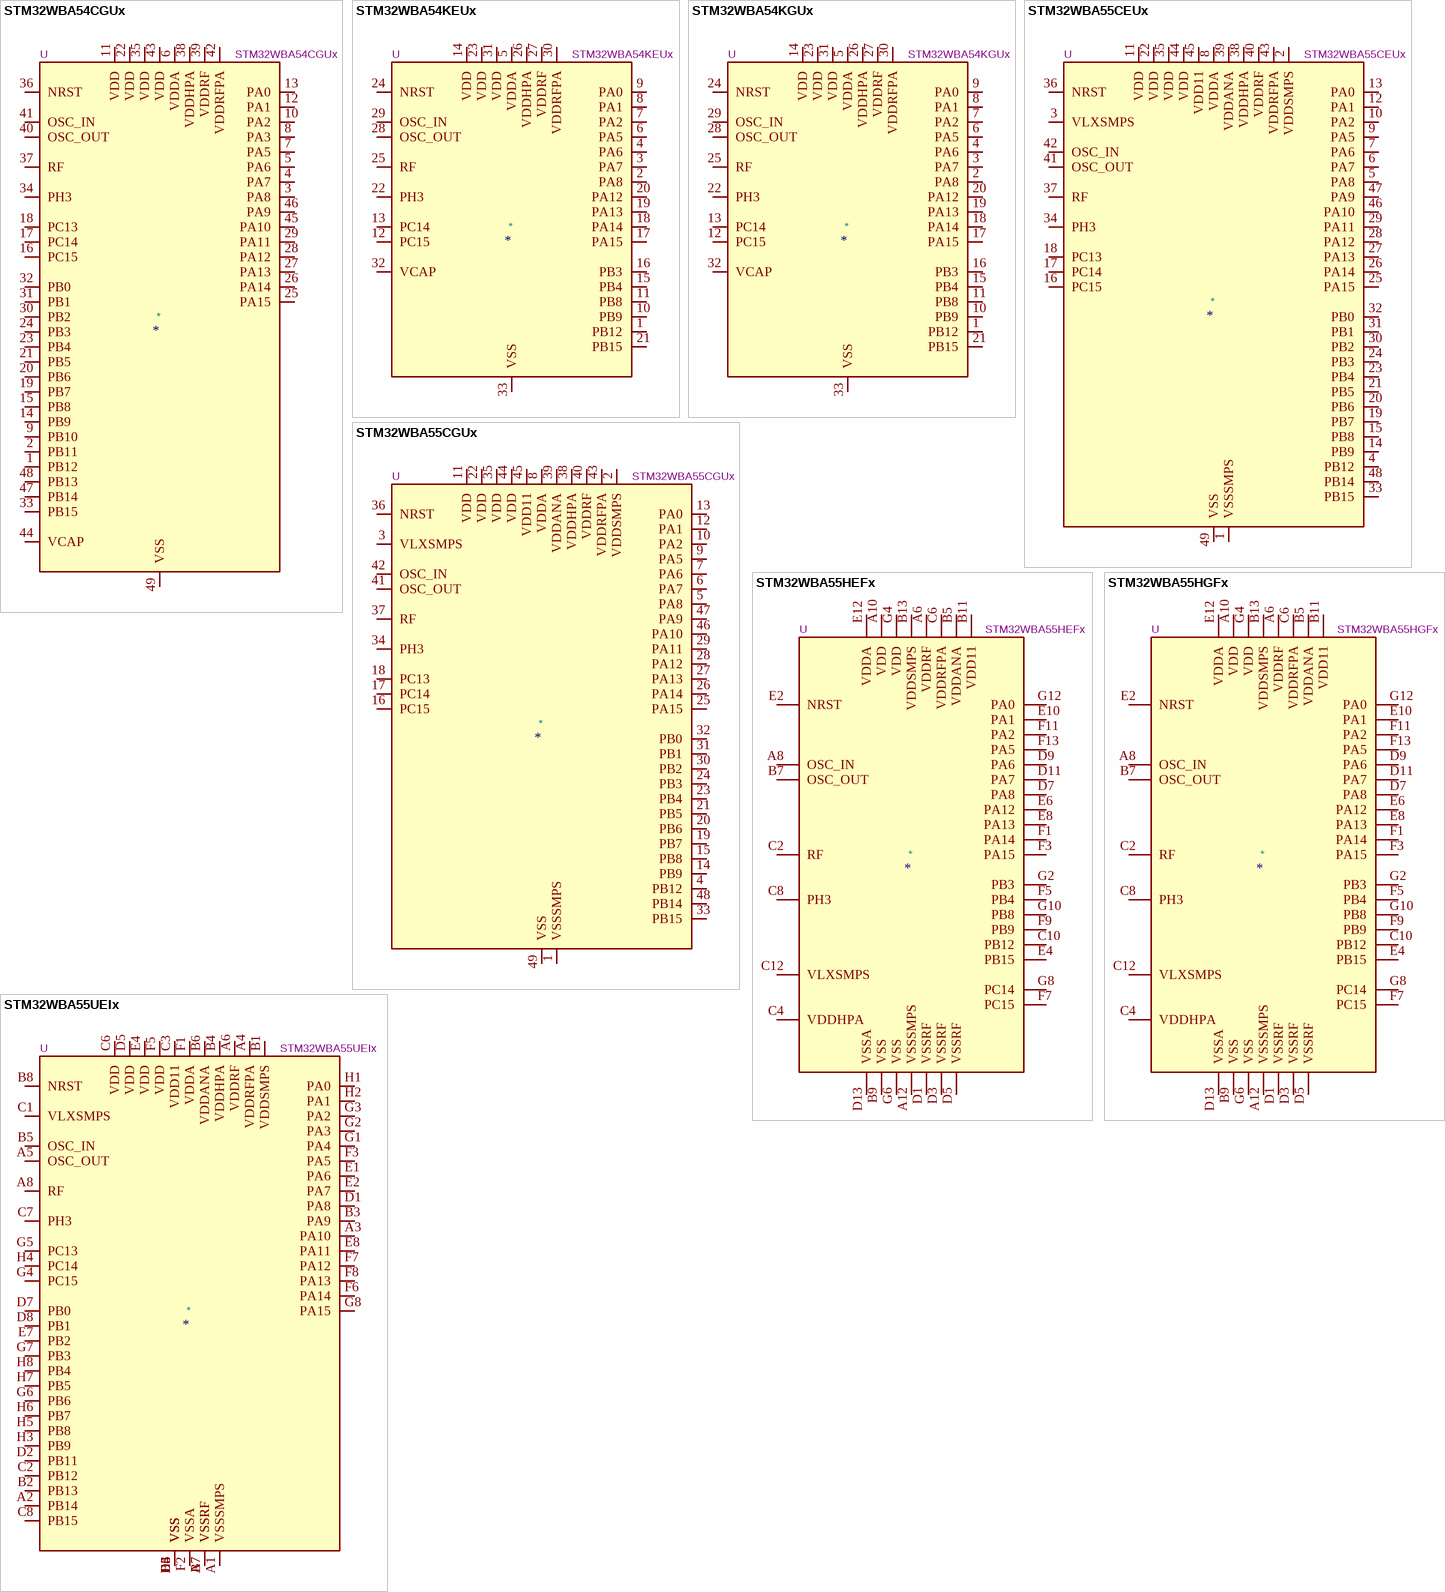
[diagram p4: symbols STM32WBA54CGUx to STM32WBA55UEIx]

## STM32WBA54CGUx
designator *  value STM32WBA54CGUx  Reference: U
STMicroelectronics Arm Cortex-M33 MCU, 1024KB flash, 128KB RAM, 100 MHz, 1.71-3.6V, 37 GPIO, UFQFPN48; ki_keywords: Arm Cortex-M33 STM32WBA STM32WBAx4; ki_fp_filters: QFN*1EP*7x7mm*P0.5mm*; Footprint: Package_DFN_QFN:QFN-48-1EP_7x7mm_P0.5mm_EP5.6x5.6mm; Datasheet: https://www.st.com/resource/en/datasheet/stm32wba54cg.pdf; Description_: STMicroelectronics Arm Cortex-M33 MCU, 1024KB flash, 128KB RAM, 100 MHz, 1.71-3.6V, 37 GPIO, UFQFPN48
pins: 1 PB12, 2 PB11, 3 PA8, 4 PA7, 5 PA6, 6 VDDA, 7 PA5, 8 PA3, 9 PB10, 10 PA2, 11 VDD, 12 PA1, 13 PA0, 14 PB9, 15 PB8, 16 PC15, 17 PC14, 18 PC13, 19 PB7, 20 PB6, 21 PB5, 22 VDD, 23 PB4, 24 PB3, 25 PA15, 26 PA14, 27 PA13, 28 PA12, 29 PA11, 30 PB2, 31 PB1, 32 PB0, 33 PB15, 34 PH3, 35 VDD, 36 NRST, 37 RF, 38 VDDHPA, 39 VDDRF, 40 OSC_OUT, 41 OSC_IN, 42 VDDRFPA, 43 VDD, 44 VCAP, 45 PA10, 46 PA9, 47 PB14, 48 PB13, 49 VSS

## STM32WBA54KEUx
designator *  value STM32WBA54KEUx  Reference: U
STMicroelectronics Arm Cortex-M33 MCU, 512KB flash, 96KB RAM, 100 MHz, 1.71-3.6V, 22 GPIO, UFQFPN32; ki_keywords: Arm Cortex-M33 STM32WBA STM32WBAx4; ki_fp_filters: QFN*1EP*5x5mm*P0.5mm*; Footprint: Package_DFN_QFN:QFN-32-1EP_5x5mm_P0.5mm_EP3.45x3.45mm; Datasheet: https://www.st.com/resource/en/datasheet/stm32wba54ke.pdf; Description_: STMicroelectronics Arm Cortex-M33 MCU, 512KB flash, 96KB RAM, 100 MHz, 1.71-3.6V, 22 GPIO, UFQFPN32
pins: 1 PB12, 2 PA8, 3 PA7, 4 PA6, 5 VDDA, 6 PA5, 7 PA2, 8 PA1, 9 PA0, 10 PB9, 11 PB8, 12 PC15, 13 PC14, 14 VDD, 15 PB4, 16 PB3, 17 PA15, 18 PA14, 19 PA13, 20 PA12, 21 PB15, 22 PH3, 23 VDD, 24 NRST, 25 RF, 26 VDDHPA, 27 VDDRF, 28 OSC_OUT, 29 OSC_IN, 30 VDDRFPA, 31 VDD, 32 VCAP, 33 VSS

## STM32WBA54KGUx
designator *  value STM32WBA54KGUx  Reference: U
STMicroelectronics Arm Cortex-M33 MCU, 1024KB flash, 128KB RAM, 100 MHz, 1.71-3.6V, 22 GPIO, UFQFPN32; ki_keywords: Arm Cortex-M33 STM32WBA STM32WBAx4; ki_fp_filters: QFN*1EP*5x5mm*P0.5mm*; Footprint: Package_DFN_QFN:QFN-32-1EP_5x5mm_P0.5mm_EP3.45x3.45mm; Datasheet: https://www.st.com/resource/en/datasheet/stm32wba54kg.pdf; Description_: STMicroelectronics Arm Cortex-M33 MCU, 1024KB flash, 128KB RAM, 100 MHz, 1.71-3.6V, 22 GPIO, UFQFPN32
pins: 1 PB12, 2 PA8, 3 PA7, 4 PA6, 5 VDDA, 6 PA5, 7 PA2, 8 PA1, 9 PA0, 10 PB9, 11 PB8, 12 PC15, 13 PC14, 14 VDD, 15 PB4, 16 PB3, 17 PA15, 18 PA14, 19 PA13, 20 PA12, 21 PB15, 22 PH3, 23 VDD, 24 NRST, 25 RF, 26 VDDHPA, 27 VDDRF, 28 OSC_OUT, 29 OSC_IN, 30 VDDRFPA, 31 VDD, 32 VCAP, 33 VSS

## STM32WBA55CEUx
designator *  value STM32WBA55CEUx  Reference: U
STMicroelectronics Arm Cortex-M33 MCU, 512KB flash, 96KB RAM, 100 MHz, 1.71-3.6V, 33 GPIO, UFQFPN48; ki_keywords: Arm Cortex-M33 STM32WBA STM32WBAx5; ki_fp_filters: QFN*1EP*7x7mm*P0.5mm*; Footprint: Package_DFN_QFN:QFN-48-1EP_7x7mm_P0.5mm_EP5.6x5.6mm; Datasheet: https://www.st.com/resource/en/datasheet/stm32wba55ce.pdf; Description_: STMicroelectronics Arm Cortex-M33 MCU, 512KB flash, 96KB RAM, 100 MHz, 1.71-3.6V, 33 GPIO, UFQFPN48
pins: 1 VSSSMPS, 2 VDDSMPS, 3 VLXSMPS, 4 PB12, 5 PA8, 6 PA7, 7 PA6, 8 VDDA, 9 PA5, 10 PA2, 11 VDD, 12 PA1, 13 PA0, 14 PB9, 15 PB8, 16 PC15, 17 PC14, 18 PC13, 19 PB7, 20 PB6, 21 PB5, 22 VDD, 23 PB4, 24 PB3, 25 PA15, 26 PA14, 27 PA13, 28 PA12, 29 PA11, 30 PB2, 31 PB1, 32 PB0, 33 PB15, 34 PH3, 35 VDD, 36 NRST, 37 RF, 38 VDDHPA, 39 VDDANA, 40 VDDRF, 41 OSC_OUT, 42 OSC_IN, 43 VDDRFPA, 44 VDD, 45 VDD11, 46 PA10, 47 PA9, 48 PB14, 49 VSS

## STM32WBA55CGUx
designator *  value STM32WBA55CGUx  Reference: U
STMicroelectronics Arm Cortex-M33 MCU, 1024KB flash, 128KB RAM, 100 MHz, 1.71-3.6V, 33 GPIO, UFQFPN48; ki_keywords: Arm Cortex-M33 STM32WBA STM32WBAx5; ki_fp_filters: QFN*1EP*7x7mm*P0.5mm*; Footprint: Package_DFN_QFN:QFN-48-1EP_7x7mm_P0.5mm_EP5.6x5.6mm; Datasheet: https://www.st.com/resource/en/datasheet/stm32wba55cg.pdf; Description_: STMicroelectronics Arm Cortex-M33 MCU, 1024KB flash, 128KB RAM, 100 MHz, 1.71-3.6V, 33 GPIO, UFQFPN48
pins: 1 VSSSMPS, 2 VDDSMPS, 3 VLXSMPS, 4 PB12, 5 PA8, 6 PA7, 7 PA6, 8 VDDA, 9 PA5, 10 PA2, 11 VDD, 12 PA1, 13 PA0, 14 PB9, 15 PB8, 16 PC15, 17 PC14, 18 PC13, 19 PB7, 20 PB6, 21 PB5, 22 VDD, 23 PB4, 24 PB3, 25 PA15, 26 PA14, 27 PA13, 28 PA12, 29 PA11, 30 PB2, 31 PB1, 32 PB0, 33 PB15, 34 PH3, 35 VDD, 36 NRST, 37 RF, 38 VDDHPA, 39 VDDANA, 40 VDDRF, 41 OSC_OUT, 42 OSC_IN, 43 VDDRFPA, 44 VDD, 45 VDD11, 46 PA10, 47 PA9, 48 PB14, 49 VSS

## STM32WBA55HEFx
designator *  value STM32WBA55HEFx  Reference: U
STMicroelectronics Arm Cortex-M33 MCU, 512KB flash, 96KB RAM, 100 MHz, 1.71-3.6V, 20 GPIO, WLCSP41; ki_keywords: STM32WBA STM32WBAx5; ki_fp_filters: ST*WLCSP*2.98x2.76mm*Layout13x7*P0.4mm*Stagger*; Footprint: Package_CSP:ST_WLCSP-41_2.98x2.76mm_Layout13x7_P0.4mm_Stagger; Datasheet: https://www.st.com/resource/en/datasheet/stm32wba55he.pdf; Description_: STMicroelectronics Arm Cortex-M33 MCU, 512KB flash, 96KB RAM, 100 MHz, 1.71-3.6V, 20 GPIO, WLCSP41
pins: A6 VDDRF, A8 OSC_IN, A10 VDD, A12 VSSSMPS, B5 VDDANA, B7 OSC_OUT, B9 VSS, B11 VDD11, B13 VDDSMPS, C2 RF, C4 VDDHPA, C6 VDDRFPA, C8 PH3, C10 PB12, C12 VLXSMPS, D1 VSSRF, D3 VSSRF, D5 VSSRF, D7 PA8, D9 PA6, D11 PA7, D13 VSSA, E2 NRST, E4 PB15, E6 PA12, E8 PA13, E10 PA1, E12 VDDA, F1 PA14, F3 PA15, F5 PB4, F7 PC15, F9 PB9, F11 PA2, F13 PA5, G2 PB3, G4 VDD, G6 VSS, G8 PC14, G10 PB8, G12 PA0

## STM32WBA55HGFx
designator *  value STM32WBA55HGFx  Reference: U
STMicroelectronics Arm Cortex-M33 MCU, 1024KB flash, 128KB RAM, 100 MHz, 1.71-3.6V, 20 GPIO, WLCSP41; ki_keywords: STM32WBA STM32WBAx5; ki_fp_filters: ST*WLCSP*2.98x2.76mm*Layout13x7*P0.4mm*Stagger*; Footprint: Package_CSP:ST_WLCSP-41_2.98x2.76mm_Layout13x7_P0.4mm_Stagger; Datasheet: https://www.st.com/resource/en/datasheet/stm32wba55hg.pdf; Description_: STMicroelectronics Arm Cortex-M33 MCU, 1024KB flash, 128KB RAM, 100 MHz, 1.71-3.6V, 20 GPIO, WLCSP41
pins: A6 VDDRF, A8 OSC_IN, A10 VDD, A12 VSSSMPS, B5 VDDANA, B7 OSC_OUT, B9 VSS, B11 VDD11, B13 VDDSMPS, C2 RF, C4 VDDHPA, C6 VDDRFPA, C8 PH3, C10 PB12, C12 VLXSMPS, D1 VSSRF, D3 VSSRF, D5 VSSRF, D7 PA8, D9 PA6, D11 PA7, D13 VSSA, E2 NRST, E4 PB15, E6 PA12, E8 PA13, E10 PA1, E12 VDDA, F1 PA14, F3 PA15, F5 PB4, F7 PC15, F9 PB9, F11 PA2, F13 PA5, G2 PB3, G4 VDD, G6 VSS, G8 PC14, G10 PB8, G12 PA0

## STM32WBA55UEIx
designator *  value STM32WBA55UEIx  Reference: U
STMicroelectronics Arm Cortex-M33 MCU, 512KB flash, 96KB RAM, 100 MHz, 1.71-3.6V, 37 GPIO, UFBGA59; ki_keywords: Arm Cortex-M33 STM32WBA STM32WBAx5; ki_fp_filters: ST*UFBGA*5x5mm*Layout8x8*P0.5mm*; Footprint: Package_BGA:ST_UFBGA-59_5x5mm_Layout8x8_P0.5mm; Datasheet: https://www.st.com/resource/en/datasheet/stm32wba55ue.pdf; Description_: STMicroelectronics Arm Cortex-M33 MCU, 512KB flash, 96KB RAM, 100 MHz, 1.71-3.6V, 37 GPIO, UFBGA59
pins: A1 VSSSMPS, A2 PB14, A3 PA10, A4 VDDRFPA, A5 OSC_OUT, A6 VDDRF, A7 VSSRF, A8 RF, B1 VDDSMPS, B2 PB13, B3 PA9, B4 VDDHPA, B5 OSC_IN, B6 VDDANA, B7 VSSRF, B8 NRST, C1 VLXSMPS, C2 PB12, C3 VDD11, C6 VDD, C7 PH3, C8 PB15, D1 PA8, D2 PB11, D4 VSS, D5 VDD, D6 VSS, D7 PB0, D8 PB1, E1 PA6, E2 PA7, E3 VSS, E4 VDD, E5 VSS, E7 PB2, E8 PA11, F1 VDDA, F2 VSSA, F3 PA5, F5 VDD, F6 PA14, F7 PA12, F8 PA13, G1 PA4, G2 PA3, G3 PA2, G4 PC15, G5 PC13, G6 PB6, G7 PB3, G8 PA15, H1 PA0, H2 PA1, H3 PB9, H4 PC14, H5 PB8, H6 PB7, H7 PB5, H8 PB4

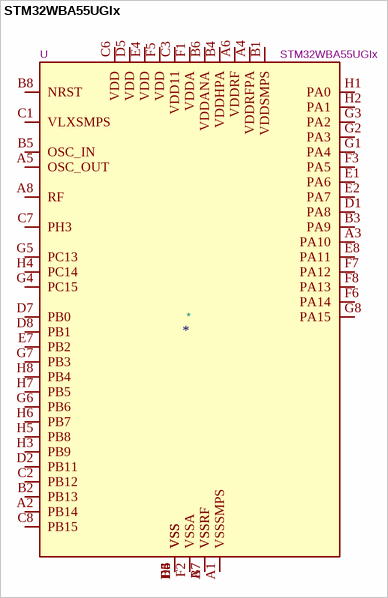
[diagram p5: symbol STM32WBA55UGIx]

## STM32WBA55UGIx
designator *  value STM32WBA55UGIx  Reference: U
STMicroelectronics Arm Cortex-M33 MCU, 1024KB flash, 128KB RAM, 100 MHz, 1.71-3.6V, 37 GPIO, UFBGA59; ki_keywords: Arm Cortex-M33 STM32WBA STM32WBAx5; ki_fp_filters: ST*UFBGA*5x5mm*Layout8x8*P0.5mm*; Footprint: Package_BGA:ST_UFBGA-59_5x5mm_Layout8x8_P0.5mm; Datasheet: https://www.st.com/resource/en/datasheet/stm32wba55ug.pdf; Description_: STMicroelectronics Arm Cortex-M33 MCU, 1024KB flash, 128KB RAM, 100 MHz, 1.71-3.6V, 37 GPIO, UFBGA59
pins: A1 VSSSMPS, A2 PB14, A3 PA10, A4 VDDRFPA, A5 OSC_OUT, A6 VDDRF, A7 VSSRF, A8 RF, B1 VDDSMPS, B2 PB13, B3 PA9, B4 VDDHPA, B5 OSC_IN, B6 VDDANA, B7 VSSRF, B8 NRST, C1 VLXSMPS, C2 PB12, C3 VDD11, C6 VDD, C7 PH3, C8 PB15, D1 PA8, D2 PB11, D4 VSS, D5 VDD, D6 VSS, D7 PB0, D8 PB1, E1 PA6, E2 PA7, E3 VSS, E4 VDD, E5 VSS, E7 PB2, E8 PA11, F1 VDDA, F2 VSSA, F3 PA5, F5 VDD, F6 PA14, F7 PA12, F8 PA13, G1 PA4, G2 PA3, G3 PA2, G4 PC15, G5 PC13, G6 PB6, G7 PB3, G8 PA15, H1 PA0, H2 PA1, H3 PB9, H4 PC14, H5 PB8, H6 PB7, H7 PB5, H8 PB4